# EAGLE library part KEYSWITCH-RGBSMDLED (library Keyboard)
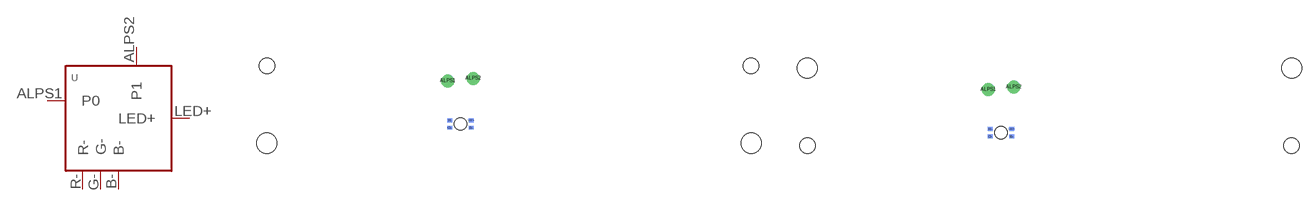
[diagram p1: symbol with the pads of ALPS-REVERSED-6U-SMDRGB; footprints ALPS-REVERSED-6U-SMDRGB, ALPS-REVERSED-6U-SMDRGB-FLIPPED]

Designator prefix -

## KEYSWITCH-RGBSMDLED-ALPS--6U-SMDRGB  [ALPS-REVERSED-6U-SMDRGB]
ALPS1  P0
ALPS2  P1
B-  B-
G-  G-
LED+  LED+
R-  R-

## KEYSWITCH-RGBSMDLED-ALPS--6U-SMDRGB-FLIPPED  [ALPS-REVERSED-6U-SMDRGB-FLIPPED]
Pads as for ALPS-REVERSED-6U-SMDRGB

## KEYSWITCH-RGBSMDLED-ALPS--6U-SMDRGB-FLIPPED-ROTATED  [ALPS-REVERSED-6U-SMDRGB-FLIPPED-ROTATED]
Pads as for ALPS-REVERSED-6U-SMDRGB

## KEYSWITCH-RGBSMDLED-ALPS--6U-SMDRGB-ROTATED  [ALPS-REVERSED-6U-SMDRGB-ROTATED]
Pads as for ALPS-REVERSED-6U-SMDRGB

## KEYSWITCH-RGBSMDLED-ALPS-1U-SMDRGB  [ALPS-1U-SMDRGB]
Pads as for ALPS-REVERSED-6U-SMDRGB

## KEYSWITCH-RGBSMDLED-ALPS-2U-SMDRGB  [ALPS-2U-SMDRGB]
Pads as for ALPS-REVERSED-6U-SMDRGB

## KEYSWITCH-RGBSMDLED-ALPS-2U-SMDRGB-FLIPPED  [ALPS-2U-SMDRGB-FLIPPED]
Pads as for ALPS-REVERSED-6U-SMDRGB

## KEYSWITCH-RGBSMDLED-ALPS-2U-SMDRGB-FLIPPED-ROTATED  [ALPS-2U-SMDRGB-FLIPPED-ROTATED]
Pads as for ALPS-REVERSED-6U-SMDRGB

## KEYSWITCH-RGBSMDLED-ALPS-2U-SMDRGB-ROTATED  [ALPS-2U-SMDRGB-ROTATED]
Pads as for ALPS-REVERSED-6U-SMDRGB

## KEYSWITCH-RGBSMDLED-ALPS-4U-SMDRGB  [ALPS-4U-SMDRGB]
Pads as for ALPS-REVERSED-6U-SMDRGB

## KEYSWITCH-RGBSMDLED-ALPS-4U-SMDRGB-FLIPPED  [ALPS-4U-SMDRGB-FLIPPED]
Pads as for ALPS-REVERSED-6U-SMDRGB

## KEYSWITCH-RGBSMDLED-ALPS-4U-SMDRGB-FLIPPED-ROTATED  [ALPS-4U-SMDRGB-FLIPPED-ROTATED]
Pads as for ALPS-REVERSED-6U-SMDRGB

## KEYSWITCH-RGBSMDLED-ALPS-4U-SMDRGB-ROTATED  [ALPS-4U-SMDRGB-ROTATED]
Pads as for ALPS-REVERSED-6U-SMDRGB

## KEYSWITCH-RGBSMDLED-ALPS-6U-SMDRGB  [ALPS-6U-SMDRGB]
Pads as for ALPS-REVERSED-6U-SMDRGB

## KEYSWITCH-RGBSMDLED-ALPS-6U-SMDRGB-FLIPPED  [ALPS-6U-SMDRGB-FLIPPED]
Pads as for ALPS-REVERSED-6U-SMDRGB

## KEYSWITCH-RGBSMDLED-ALPS-6U-SMDRGB-FLIPPED-ROTATED  [ALPS-6U-SMDRGB-FLIPPED-ROTATED]
Pads as for ALPS-REVERSED-6U-SMDRGB

## KEYSWITCH-RGBSMDLED-ALPS-6U-SMDRGB-ROTATED  [ALPS-6U-SMDRGB-ROTATED]
Pads as for ALPS-REVERSED-6U-SMDRGB

## KEYSWITCH-RGBSMDLED-ALPS-6.25U-SMDRGB  [ALPS-6.25U-SMDRGB]
Pads as for ALPS-REVERSED-6U-SMDRGB

## KEYSWITCH-RGBSMDLED-ALPS-6.25U-SMDRGB-FLIPPED  [ALPS-6.25U-SMDRGB-FLIPPED]
Pads as for ALPS-REVERSED-6U-SMDRGB

## KEYSWITCH-RGBSMDLED-ALPS-6.25U-SMDRGB-FLIPPED-ROTATED  [ALPS-6.25U-SMDRGB-FLIPPED-ROTATED]
Pads as for ALPS-REVERSED-6U-SMDRGB

## KEYSWITCH-RGBSMDLED-ALPS-6.25U-SMDRGB-ROTATED  [ALPS-6.25U-SMDRGB-ROTATED]
Pads as for ALPS-REVERSED-6U-SMDRGB

## KEYSWITCH-RGBSMDLED-ALPS-6.5U-SMDRGB  [ALPS-6.5U-SMDRGB]
Pads as for ALPS-REVERSED-6U-SMDRGB

## KEYSWITCH-RGBSMDLED-ALPS-6.5U-SMDRGB-FLIPPED  [ALPS-6.5U-SMDRGB-FLIPPED]
Pads as for ALPS-REVERSED-6U-SMDRGB

## KEYSWITCH-RGBSMDLED-ALPS-6.5U-SMDRGB-FLIPPED-ROTATED  [ALPS-6.5U-SMDRGB-FLIPPED-ROTATED]
Pads as for ALPS-REVERSED-6U-SMDRGB

## KEYSWITCH-RGBSMDLED-ALPS-6.5U-SMDRGB-ROTATED  [ALPS-6.5U-SMDRGB-ROTATED]
Pads as for ALPS-REVERSED-6U-SMDRGB

## KEYSWITCH-RGBSMDLED-ALPS-7U-SMDRGB  [ALPS-7U-SMDRGB]
Pads as for ALPS-REVERSED-6U-SMDRGB

## KEYSWITCH-RGBSMDLED-ALPS-7U-SMDRGB-FLIPPED  [ALPS-7U-SMDRGB-FLIPPED]
Pads as for ALPS-REVERSED-6U-SMDRGB

## KEYSWITCH-RGBSMDLED-ALPS-7U-SMDRGB-FLIPPED-ROTATED  [ALPS-7U-SMDRGB-FLIPPED-ROTATED]
Pads as for ALPS-REVERSED-6U-SMDRGB

## KEYSWITCH-RGBSMDLED-ALPS-7U-SMDRGB-ROTATED  [ALPS-7U-SMDRGB-ROTATED]
Pads as for ALPS-REVERSED-6U-SMDRGB

## KEYSWITCH-RGBSMDLED-ALPSMX--6U-SMDRGB  [ALPSMX-REVERSED-6U-SMDRGB]
ALPS1  P0
ALPS2  P1
B-  B-
G-  G-
LED+  LED+
MX1  P0
MX2  P1
R-  R-

## KEYSWITCH-RGBSMDLED-ALPSMX--6U-SMDRGB-FLIPPED  [ALPSMX-REVERSED-6U-SMDRGB-FLIPPED]
Pads as for ALPSMX-REVERSED-6U-SMDRGB

## KEYSWITCH-RGBSMDLED-ALPSMX--6U-SMDRGB-FLIPPED-ROTATED  [ALPSMX-REVERSED-6U-SMDRGB-FLIPPED-ROTATED]
Pads as for ALPSMX-REVERSED-6U-SMDRGB

## KEYSWITCH-RGBSMDLED-ALPSMX--6U-SMDRGB-ROTATED  [ALPSMX-REVERSED-6U-SMDRGB-ROTATED]
Pads as for ALPSMX-REVERSED-6U-SMDRGB

## KEYSWITCH-RGBSMDLED-ALPSMX-1U-SMDRGB  [ALPSMX-1U-SMDRGB]
Pads as for ALPSMX-REVERSED-6U-SMDRGB

## KEYSWITCH-RGBSMDLED-ALPSMX-2U-SMDRGB  [ALPSMX-2U-SMDRGB]
Pads as for ALPSMX-REVERSED-6U-SMDRGB

## KEYSWITCH-RGBSMDLED-ALPSMX-2U-SMDRGB-FLIPPED  [ALPSMX-2U-SMDRGB-FLIPPED]
Pads as for ALPSMX-REVERSED-6U-SMDRGB

## KEYSWITCH-RGBSMDLED-ALPSMX-2U-SMDRGB-FLIPPED-ROTATED  [ALPSMX-2U-SMDRGB-FLIPPED-ROTATED]
Pads as for ALPSMX-REVERSED-6U-SMDRGB

## KEYSWITCH-RGBSMDLED-ALPSMX-2U-SMDRGB-ROTATED  [ALPSMX-2U-SMDRGB-ROTATED]
Pads as for ALPSMX-REVERSED-6U-SMDRGB

## KEYSWITCH-RGBSMDLED-ALPSMX-4U-SMDRGB  [ALPSMX-4U-SMDRGB]
Pads as for ALPSMX-REVERSED-6U-SMDRGB

## KEYSWITCH-RGBSMDLED-ALPSMX-4U-SMDRGB-FLIPPED  [ALPSMX-4U-SMDRGB-FLIPPED]
Pads as for ALPSMX-REVERSED-6U-SMDRGB

## KEYSWITCH-RGBSMDLED-ALPSMX-4U-SMDRGB-FLIPPED-ROTATED  [ALPSMX-4U-SMDRGB-FLIPPED-ROTATED]
Pads as for ALPSMX-REVERSED-6U-SMDRGB

## KEYSWITCH-RGBSMDLED-ALPSMX-4U-SMDRGB-ROTATED  [ALPSMX-4U-SMDRGB-ROTATED]
Pads as for ALPSMX-REVERSED-6U-SMDRGB

## KEYSWITCH-RGBSMDLED-ALPSMX-6U-SMDRGB  [ALPSMX-6U-SMDRGB]
Pads as for ALPSMX-REVERSED-6U-SMDRGB

## KEYSWITCH-RGBSMDLED-ALPSMX-6U-SMDRGB-FLIPPED  [ALPSMX-6U-SMDRGB-FLIPPED]
Pads as for ALPSMX-REVERSED-6U-SMDRGB

## KEYSWITCH-RGBSMDLED-ALPSMX-6U-SMDRGB-FLIPPED-ROTATED  [ALPSMX-6U-SMDRGB-FLIPPED-ROTATED]
Pads as for ALPSMX-REVERSED-6U-SMDRGB

## KEYSWITCH-RGBSMDLED-ALPSMX-6U-SMDRGB-ROTATED  [ALPSMX-6U-SMDRGB-ROTATED]
Pads as for ALPSMX-REVERSED-6U-SMDRGB

## KEYSWITCH-RGBSMDLED-ALPSMX-6.25U-SMDRGB  [ALPSMX-6.25U-SMDRGB]
Pads as for ALPSMX-REVERSED-6U-SMDRGB

## KEYSWITCH-RGBSMDLED-ALPSMX-6.25U-SMDRGB-FLIPPED  [ALPSMX-6.25U-SMDRGB-FLIPPED]
Pads as for ALPSMX-REVERSED-6U-SMDRGB

## KEYSWITCH-RGBSMDLED-ALPSMX-6.25U-SMDRGB-FLIPPED-ROTATED  [ALPSMX-6.25U-SMDRGB-FLIPPED-ROTATED]
Pads as for ALPSMX-REVERSED-6U-SMDRGB

## KEYSWITCH-RGBSMDLED-ALPSMX-6.25U-SMDRGB-ROTATED  [ALPSMX-6.25U-SMDRGB-ROTATED]
Pads as for ALPSMX-REVERSED-6U-SMDRGB

## KEYSWITCH-RGBSMDLED-ALPSMX-6.5U-SMDRGB  [ALPSMX-6.5U-SMDRGB]
Pads as for ALPSMX-REVERSED-6U-SMDRGB

## KEYSWITCH-RGBSMDLED-ALPSMX-6.5U-SMDRGB-FLIPPED  [ALPSMX-6.5U-SMDRGB-FLIPPED]
Pads as for ALPSMX-REVERSED-6U-SMDRGB

## KEYSWITCH-RGBSMDLED-ALPSMX-6.5U-SMDRGB-FLIPPED-ROTATED  [ALPSMX-6.5U-SMDRGB-FLIPPED-ROTATED]
Pads as for ALPSMX-REVERSED-6U-SMDRGB

## KEYSWITCH-RGBSMDLED-ALPSMX-6.5U-SMDRGB-ROTATED  [ALPSMX-6.5U-SMDRGB-ROTATED]
Pads as for ALPSMX-REVERSED-6U-SMDRGB

## KEYSWITCH-RGBSMDLED-ALPSMX-7U-SMDRGB  [ALPSMX-7U-SMDRGB]
Pads as for ALPSMX-REVERSED-6U-SMDRGB

## KEYSWITCH-RGBSMDLED-ALPSMX-7U-SMDRGB-FLIPPED  [ALPSMX-7U-SMDRGB-FLIPPED]
Pads as for ALPSMX-REVERSED-6U-SMDRGB

## KEYSWITCH-RGBSMDLED-ALPSMX-7U-SMDRGB-FLIPPED-ROTATED  [ALPSMX-7U-SMDRGB-FLIPPED-ROTATED]
Pads as for ALPSMX-REVERSED-6U-SMDRGB

## KEYSWITCH-RGBSMDLED-ALPSMX-7U-SMDRGB-ROTATED  [ALPSMX-7U-SMDRGB-ROTATED]
Pads as for ALPSMX-REVERSED-6U-SMDRGB

## KEYSWITCH-RGBSMDLED-ALPSMXMIR--6U-SMDRGB  [ALPSMXMIR-REVERSED-6U-SMDRGB]
ALPS1  P0
ALPS2  P1
ALPS3  P0
ALPS4  P1
B-  B-
G-  G-
LED+  LED+
MX1  P0
MX2  P1
MX3  P0
MX4  P1
R-  R-

## KEYSWITCH-RGBSMDLED-ALPSMXMIR--6U-SMDRGB-FLIPPED  [ALPSMXMIR-REVERSED-6U-SMDRGB-FLIPPED]
Pads as for ALPSMXMIR-REVERSED-6U-SMDRGB

## KEYSWITCH-RGBSMDLED-ALPSMXMIR--6U-SMDRGB-FLIPPED-ROTATED  [ALPSMXMIR-REVERSED-6U-SMDRGB-FLIPPED-ROTATED]
Pads as for ALPSMXMIR-REVERSED-6U-SMDRGB

## KEYSWITCH-RGBSMDLED-ALPSMXMIR--6U-SMDRGB-ROTATED  [ALPSMXMIR-REVERSED-6U-SMDRGB-ROTATED]
Pads as for ALPSMXMIR-REVERSED-6U-SMDRGB

## KEYSWITCH-RGBSMDLED-ALPSMXMIR-1U-SMDRGB  [ALPSMXMIR-1U-SMDRGB]
Pads as for ALPSMXMIR-REVERSED-6U-SMDRGB

## KEYSWITCH-RGBSMDLED-ALPSMXMIR-2U-SMDRGB  [ALPSMXMIR-2U-SMDRGB]
Pads as for ALPSMXMIR-REVERSED-6U-SMDRGB

## KEYSWITCH-RGBSMDLED-ALPSMXMIR-2U-SMDRGB-FLIPPED  [ALPSMXMIR-2U-SMDRGB-FLIPPED]
Pads as for ALPSMXMIR-REVERSED-6U-SMDRGB

## KEYSWITCH-RGBSMDLED-ALPSMXMIR-2U-SMDRGB-FLIPPED-ROTATED  [ALPSMXMIR-2U-SMDRGB-FLIPPED-ROTATED]
Pads as for ALPSMXMIR-REVERSED-6U-SMDRGB

## KEYSWITCH-RGBSMDLED-ALPSMXMIR-2U-SMDRGB-ROTATED  [ALPSMXMIR-2U-SMDRGB-ROTATED]
Pads as for ALPSMXMIR-REVERSED-6U-SMDRGB

## KEYSWITCH-RGBSMDLED-ALPSMXMIR-4U-SMDRGB  [ALPSMXMIR-4U-SMDRGB]
Pads as for ALPSMXMIR-REVERSED-6U-SMDRGB

## KEYSWITCH-RGBSMDLED-ALPSMXMIR-4U-SMDRGB-FLIPPED  [ALPSMXMIR-4U-SMDRGB-FLIPPED]
Pads as for ALPSMXMIR-REVERSED-6U-SMDRGB

## KEYSWITCH-RGBSMDLED-ALPSMXMIR-4U-SMDRGB-FLIPPED-ROTATED  [ALPSMXMIR-4U-SMDRGB-FLIPPED-ROTATED]
Pads as for ALPSMXMIR-REVERSED-6U-SMDRGB

## KEYSWITCH-RGBSMDLED-ALPSMXMIR-4U-SMDRGB-ROTATED  [ALPSMXMIR-4U-SMDRGB-ROTATED]
Pads as for ALPSMXMIR-REVERSED-6U-SMDRGB

## KEYSWITCH-RGBSMDLED-ALPSMXMIR-6U-SMDRGB  [ALPSMXMIR-6U-SMDRGB]
Pads as for ALPSMXMIR-REVERSED-6U-SMDRGB

## KEYSWITCH-RGBSMDLED-ALPSMXMIR-6U-SMDRGB-FLIPPED  [ALPSMXMIR-6U-SMDRGB-FLIPPED]
Pads as for ALPSMXMIR-REVERSED-6U-SMDRGB

## KEYSWITCH-RGBSMDLED-ALPSMXMIR-6U-SMDRGB-FLIPPED-ROTATED  [ALPSMXMIR-6U-SMDRGB-FLIPPED-ROTATED]
Pads as for ALPSMXMIR-REVERSED-6U-SMDRGB

## KEYSWITCH-RGBSMDLED-ALPSMXMIR-6U-SMDRGB-ROTATED  [ALPSMXMIR-6U-SMDRGB-ROTATED]
Pads as for ALPSMXMIR-REVERSED-6U-SMDRGB

## KEYSWITCH-RGBSMDLED-ALPSMXMIR-6.25U-SMDRGB  [ALPSMXMIR-6.25U-SMDRGB]
Pads as for ALPSMXMIR-REVERSED-6U-SMDRGB

## KEYSWITCH-RGBSMDLED-ALPSMXMIR-6.25U-SMDRGB-FLIPPED  [ALPSMXMIR-6.25U-SMDRGB-FLIPPED]
Pads as for ALPSMXMIR-REVERSED-6U-SMDRGB

## KEYSWITCH-RGBSMDLED-ALPSMXMIR-6.25U-SMDRGB-FLIPPED-ROTATED  [ALPSMXMIR-6.25U-SMDRGB-FLIPPED-ROTATED]
Pads as for ALPSMXMIR-REVERSED-6U-SMDRGB

## KEYSWITCH-RGBSMDLED-ALPSMXMIR-6.25U-SMDRGB-ROTATED  [ALPSMXMIR-6.25U-SMDRGB-ROTATED]
Pads as for ALPSMXMIR-REVERSED-6U-SMDRGB

## KEYSWITCH-RGBSMDLED-ALPSMXMIR-6.5U-SMDRGB  [ALPSMXMIR-6.5U-SMDRGB]
Pads as for ALPSMXMIR-REVERSED-6U-SMDRGB

## KEYSWITCH-RGBSMDLED-ALPSMXMIR-6.5U-SMDRGB-FLIPPED  [ALPSMXMIR-6.5U-SMDRGB-FLIPPED]
Pads as for ALPSMXMIR-REVERSED-6U-SMDRGB

## KEYSWITCH-RGBSMDLED-ALPSMXMIR-6.5U-SMDRGB-FLIPPED-ROTATED  [ALPSMXMIR-6.5U-SMDRGB-FLIPPED-ROTATED]
Pads as for ALPSMXMIR-REVERSED-6U-SMDRGB

## KEYSWITCH-RGBSMDLED-ALPSMXMIR-6.5U-SMDRGB-ROTATED  [ALPSMXMIR-6.5U-SMDRGB-ROTATED]
Pads as for ALPSMXMIR-REVERSED-6U-SMDRGB

## KEYSWITCH-RGBSMDLED-ALPSMXMIR-7U-SMDRGB  [ALPSMXMIR-7U-SMDRGB]
Pads as for ALPSMXMIR-REVERSED-6U-SMDRGB

## KEYSWITCH-RGBSMDLED-ALPSMXMIR-7U-SMDRGB-FLIPPED  [ALPSMXMIR-7U-SMDRGB-FLIPPED]
Pads as for ALPSMXMIR-REVERSED-6U-SMDRGB

## KEYSWITCH-RGBSMDLED-ALPSMXMIR-7U-SMDRGB-FLIPPED-ROTATED  [ALPSMXMIR-7U-SMDRGB-FLIPPED-ROTATED]
Pads as for ALPSMXMIR-REVERSED-6U-SMDRGB

## KEYSWITCH-RGBSMDLED-ALPSMXMIR-7U-SMDRGB-ROTATED  [ALPSMXMIR-7U-SMDRGB-ROTATED]
Pads as for ALPSMXMIR-REVERSED-6U-SMDRGB

## KEYSWITCH-RGBSMDLED-MX--6U-SMDRGB  [MX-REVERSED-6U-SMDRGB]
B-  B-
G-  G-
LED+  LED+
MX1  P0
MX2  P1
R-  R-

## KEYSWITCH-RGBSMDLED-MX--6U-SMDRGB-FLIPPED  [MX-REVERSED-6U-SMDRGB-FLIPPED]
Pads as for MX-REVERSED-6U-SMDRGB

## KEYSWITCH-RGBSMDLED-MX--6U-SMDRGB-FLIPPED-ROTATED  [MX-REVERSED-6U-SMDRGB-FLIPPED-ROTATED]
Pads as for MX-REVERSED-6U-SMDRGB

## KEYSWITCH-RGBSMDLED-MX--6U-SMDRGB-ROTATED  [MX-REVERSED-6U-SMDRGB-ROTATED]
Pads as for MX-REVERSED-6U-SMDRGB

## KEYSWITCH-RGBSMDLED-MX-1U-SMDRGB  [MX-1U-SMDRGB]
Pads as for MX-REVERSED-6U-SMDRGB

## KEYSWITCH-RGBSMDLED-MX-2U-SMDRGB  [MX-2U-SMDRGB]
Pads as for MX-REVERSED-6U-SMDRGB

## KEYSWITCH-RGBSMDLED-MX-2U-SMDRGB-FLIPPED  [MX-2U-SMDRGB-FLIPPED]
Pads as for MX-REVERSED-6U-SMDRGB

## KEYSWITCH-RGBSMDLED-MX-2U-SMDRGB-FLIPPED-ROTATED  [MX-2U-SMDRGB-FLIPPED-ROTATED]
Pads as for MX-REVERSED-6U-SMDRGB

## KEYSWITCH-RGBSMDLED-MX-2U-SMDRGB-ROTATED  [MX-2U-SMDRGB-ROTATED]
Pads as for MX-REVERSED-6U-SMDRGB

## KEYSWITCH-RGBSMDLED-MX-4U-SMDRGB  [MX-4U-SMDRGB]
Pads as for MX-REVERSED-6U-SMDRGB

## KEYSWITCH-RGBSMDLED-MX-4U-SMDRGB-FLIPPED  [MX-4U-SMDRGB-FLIPPED]
Pads as for MX-REVERSED-6U-SMDRGB

## KEYSWITCH-RGBSMDLED-MX-4U-SMDRGB-FLIPPED-ROTATED  [MX-4U-SMDRGB-FLIPPED-ROTATED]
Pads as for MX-REVERSED-6U-SMDRGB

## KEYSWITCH-RGBSMDLED-MX-4U-SMDRGB-ROTATED  [MX-4U-SMDRGB-ROTATED]
Pads as for MX-REVERSED-6U-SMDRGB

## KEYSWITCH-RGBSMDLED-MX-6U-SMDRGB  [MX-6U-SMDRGB]
Pads as for MX-REVERSED-6U-SMDRGB

## KEYSWITCH-RGBSMDLED-MX-6U-SMDRGB-FLIPPED  [MX-6U-SMDRGB-FLIPPED]
Pads as for MX-REVERSED-6U-SMDRGB

## KEYSWITCH-RGBSMDLED-MX-6U-SMDRGB-FLIPPED-ROTATED  [MX-6U-SMDRGB-FLIPPED-ROTATED]
Pads as for MX-REVERSED-6U-SMDRGB

## KEYSWITCH-RGBSMDLED-MX-6U-SMDRGB-ROTATED  [MX-6U-SMDRGB-ROTATED]
Pads as for MX-REVERSED-6U-SMDRGB

## KEYSWITCH-RGBSMDLED-MX-6.25U-SMDRGB  [MX-6.25U-SMDRGB]
Pads as for MX-REVERSED-6U-SMDRGB

## KEYSWITCH-RGBSMDLED-MX-6.25U-SMDRGB-FLIPPED  [MX-6.25U-SMDRGB-FLIPPED]
Pads as for MX-REVERSED-6U-SMDRGB

## KEYSWITCH-RGBSMDLED-MX-6.25U-SMDRGB-FLIPPED-ROTATED  [MX-6.25U-SMDRGB-FLIPPED-ROTATED]
Pads as for MX-REVERSED-6U-SMDRGB

## KEYSWITCH-RGBSMDLED-MX-6.25U-SMDRGB-ROTATED  [MX-6.25U-SMDRGB-ROTATED]
Pads as for MX-REVERSED-6U-SMDRGB

## KEYSWITCH-RGBSMDLED-MX-6.5U-SMDRGB  [MX-6.5U-SMDRGB]
Pads as for MX-REVERSED-6U-SMDRGB

## KEYSWITCH-RGBSMDLED-MX-6.5U-SMDRGB-FLIPPED  [MX-6.5U-SMDRGB-FLIPPED]
Pads as for MX-REVERSED-6U-SMDRGB

## KEYSWITCH-RGBSMDLED-MX-6.5U-SMDRGB-FLIPPED-ROTATED  [MX-6.5U-SMDRGB-FLIPPED-ROTATED]
Pads as for MX-REVERSED-6U-SMDRGB

## KEYSWITCH-RGBSMDLED-MX-6.5U-SMDRGB-ROTATED  [MX-6.5U-SMDRGB-ROTATED]
Pads as for MX-REVERSED-6U-SMDRGB

## KEYSWITCH-RGBSMDLED-MX-7U-SMDRGB  [MX-7U-SMDRGB]
Pads as for MX-REVERSED-6U-SMDRGB

## KEYSWITCH-RGBSMDLED-MX-7U-SMDRGB-FLIPPED  [MX-7U-SMDRGB-FLIPPED]
Pads as for MX-REVERSED-6U-SMDRGB

## KEYSWITCH-RGBSMDLED-MX-7U-SMDRGB-FLIPPED-ROTATED  [MX-7U-SMDRGB-FLIPPED-ROTATED]
Pads as for MX-REVERSED-6U-SMDRGB

## KEYSWITCH-RGBSMDLED-MX-7U-SMDRGB-ROTATED  [MX-7U-SMDRGB-ROTATED]
Pads as for MX-REVERSED-6U-SMDRGB

## KEYSWITCH-RGBSMDLED-MXHS--6U-SMDRGB  [MXHS-REVERSED-6U-SMDRGB]
Pads as for MX-REVERSED-6U-SMDRGB

## KEYSWITCH-RGBSMDLED-MXHS--6U-SMDRGB-FLIPPED  [MXHS-REVERSED-6U-SMDRGB-FLIPPED]
Pads as for MX-REVERSED-6U-SMDRGB

## KEYSWITCH-RGBSMDLED-MXHS--6U-SMDRGB-FLIPPED-ROTATED  [MXHS-REVERSED-6U-SMDRGB-FLIPPED-ROTATED]
Pads as for MX-REVERSED-6U-SMDRGB

## KEYSWITCH-RGBSMDLED-MXHS--6U-SMDRGB-ROTATED  [MXHS-REVERSED-6U-SMDRGB-ROTATED]
Pads as for MX-REVERSED-6U-SMDRGB

## KEYSWITCH-RGBSMDLED-MXHS-1U-SMDRGB  [MXHS-1U-SMDRGB]
Pads as for MX-REVERSED-6U-SMDRGB

## KEYSWITCH-RGBSMDLED-MXHS-2U-SMDRGB  [MXHS-2U-SMDRGB]
Pads as for MX-REVERSED-6U-SMDRGB

## KEYSWITCH-RGBSMDLED-MXHS-2U-SMDRGB-FLIPPED  [MXHS-2U-SMDRGB-FLIPPED]
Pads as for MX-REVERSED-6U-SMDRGB

## KEYSWITCH-RGBSMDLED-MXHS-2U-SMDRGB-FLIPPED-ROTATED  [MXHS-2U-SMDRGB-FLIPPED-ROTATED]
Pads as for MX-REVERSED-6U-SMDRGB

## KEYSWITCH-RGBSMDLED-MXHS-2U-SMDRGB-ROTATED  [MXHS-2U-SMDRGB-ROTATED]
Pads as for MX-REVERSED-6U-SMDRGB

## KEYSWITCH-RGBSMDLED-MXHS-4U-SMDRGB  [MXHS-4U-SMDRGB]
Pads as for MX-REVERSED-6U-SMDRGB

## KEYSWITCH-RGBSMDLED-MXHS-4U-SMDRGB-FLIPPED  [MXHS-4U-SMDRGB-FLIPPED]
Pads as for MX-REVERSED-6U-SMDRGB

## KEYSWITCH-RGBSMDLED-MXHS-4U-SMDRGB-FLIPPED-ROTATED  [MXHS-4U-SMDRGB-FLIPPED-ROTATED]
Pads as for MX-REVERSED-6U-SMDRGB

## KEYSWITCH-RGBSMDLED-MXHS-4U-SMDRGB-ROTATED  [MXHS-4U-SMDRGB-ROTATED]
Pads as for MX-REVERSED-6U-SMDRGB

## KEYSWITCH-RGBSMDLED-MXHS-6U-SMDRGB  [MXHS-6U-SMDRGB]
Pads as for MX-REVERSED-6U-SMDRGB

## KEYSWITCH-RGBSMDLED-MXHS-6U-SMDRGB-FLIPPED  [MXHS-6U-SMDRGB-FLIPPED]
Pads as for MX-REVERSED-6U-SMDRGB

## KEYSWITCH-RGBSMDLED-MXHS-6U-SMDRGB-FLIPPED-ROTATED  [MXHS-6U-SMDRGB-FLIPPED-ROTATED]
Pads as for MX-REVERSED-6U-SMDRGB

## KEYSWITCH-RGBSMDLED-MXHS-6U-SMDRGB-ROTATED  [MXHS-6U-SMDRGB-ROTATED]
Pads as for MX-REVERSED-6U-SMDRGB

## KEYSWITCH-RGBSMDLED-MXHS-6.25U-SMDRGB  [MXHS-6.25U-SMDRGB]
Pads as for MX-REVERSED-6U-SMDRGB

## KEYSWITCH-RGBSMDLED-MXHS-6.25U-SMDRGB-FLIPPED  [MXHS-6.25U-SMDRGB-FLIPPED]
Pads as for MX-REVERSED-6U-SMDRGB

## KEYSWITCH-RGBSMDLED-MXHS-6.25U-SMDRGB-FLIPPED-ROTATED  [MXHS-6.25U-SMDRGB-FLIPPED-ROTATED]
Pads as for MX-REVERSED-6U-SMDRGB

## KEYSWITCH-RGBSMDLED-MXHS-6.25U-SMDRGB-ROTATED  [MXHS-6.25U-SMDRGB-ROTATED]
Pads as for MX-REVERSED-6U-SMDRGB

## KEYSWITCH-RGBSMDLED-MXHS-6.5U-SMDRGB  [MXHS-6.5U-SMDRGB]
Pads as for MX-REVERSED-6U-SMDRGB

## KEYSWITCH-RGBSMDLED-MXHS-6.5U-SMDRGB-FLIPPED  [MXHS-6.5U-SMDRGB-FLIPPED]
Pads as for MX-REVERSED-6U-SMDRGB

## KEYSWITCH-RGBSMDLED-MXHS-6.5U-SMDRGB-FLIPPED-ROTATED  [MXHS-6.5U-SMDRGB-FLIPPED-ROTATED]
Pads as for MX-REVERSED-6U-SMDRGB

## KEYSWITCH-RGBSMDLED-MXHS-6.5U-SMDRGB-ROTATED  [MXHS-6.5U-SMDRGB-ROTATED]
Pads as for MX-REVERSED-6U-SMDRGB

## KEYSWITCH-RGBSMDLED-MXHS-7U-SMDRGB  [MXHS-7U-SMDRGB]
Pads as for MX-REVERSED-6U-SMDRGB

## KEYSWITCH-RGBSMDLED-MXHS-7U-SMDRGB-FLIPPED  [MXHS-7U-SMDRGB-FLIPPED]
Pads as for MX-REVERSED-6U-SMDRGB

## KEYSWITCH-RGBSMDLED-MXHS-7U-SMDRGB-FLIPPED-ROTATED  [MXHS-7U-SMDRGB-FLIPPED-ROTATED]
Pads as for MX-REVERSED-6U-SMDRGB

## KEYSWITCH-RGBSMDLED-MXHS-7U-SMDRGB-ROTATED  [MXHS-7U-SMDRGB-ROTATED]
Pads as for MX-REVERSED-6U-SMDRGB

## KEYSWITCH-RGBSMDLED-MXHSPCB--6U-SMDRGB  [MXHSPCB-REVERSED-6U-SMDRGB]
Pads as for MX-REVERSED-6U-SMDRGB

## KEYSWITCH-RGBSMDLED-MXHSPCB--6U-SMDRGB-FLIPPED  [MXHSPCB-REVERSED-6U-SMDRGB-FLIPPED]
Pads as for MX-REVERSED-6U-SMDRGB

## KEYSWITCH-RGBSMDLED-MXHSPCB--6U-SMDRGB-FLIPPED-ROTATED  [MXHSPCB-REVERSED-6U-SMDRGB-FLIPPED-ROTATED]
Pads as for MX-REVERSED-6U-SMDRGB

## KEYSWITCH-RGBSMDLED-MXHSPCB--6U-SMDRGB-ROTATED  [MXHSPCB-REVERSED-6U-SMDRGB-ROTATED]
Pads as for MX-REVERSED-6U-SMDRGB

## KEYSWITCH-RGBSMDLED-MXHSPCB-1U-SMDRGB  [MXHSPCB-1U-SMDRGB]
Pads as for MX-REVERSED-6U-SMDRGB

## KEYSWITCH-RGBSMDLED-MXHSPCB-2U-SMDRGB  [MXHSPCB-2U-SMDRGB]
Pads as for MX-REVERSED-6U-SMDRGB

## KEYSWITCH-RGBSMDLED-MXHSPCB-2U-SMDRGB-FLIPPED  [MXHSPCB-2U-SMDRGB-FLIPPED]
Pads as for MX-REVERSED-6U-SMDRGB

## KEYSWITCH-RGBSMDLED-MXHSPCB-2U-SMDRGB-FLIPPED-ROTATED  [MXHSPCB-2U-SMDRGB-FLIPPED-ROTATED]
Pads as for MX-REVERSED-6U-SMDRGB

## KEYSWITCH-RGBSMDLED-MXHSPCB-2U-SMDRGB-ROTATED  [MXHSPCB-2U-SMDRGB-ROTATED]
Pads as for MX-REVERSED-6U-SMDRGB

## KEYSWITCH-RGBSMDLED-MXHSPCB-4U-SMDRGB  [MXHSPCB-4U-SMDRGB]
Pads as for MX-REVERSED-6U-SMDRGB

## KEYSWITCH-RGBSMDLED-MXHSPCB-4U-SMDRGB-FLIPPED  [MXHSPCB-4U-SMDRGB-FLIPPED]
Pads as for MX-REVERSED-6U-SMDRGB

## KEYSWITCH-RGBSMDLED-MXHSPCB-4U-SMDRGB-FLIPPED-ROTATED  [MXHSPCB-4U-SMDRGB-FLIPPED-ROTATED]
Pads as for MX-REVERSED-6U-SMDRGB

## KEYSWITCH-RGBSMDLED-MXHSPCB-4U-SMDRGB-ROTATED  [MXHSPCB-4U-SMDRGB-ROTATED]
Pads as for MX-REVERSED-6U-SMDRGB

## KEYSWITCH-RGBSMDLED-MXHSPCB-6U-SMDRGB  [MXHSPCB-6U-SMDRGB]
Pads as for MX-REVERSED-6U-SMDRGB

## KEYSWITCH-RGBSMDLED-MXHSPCB-6U-SMDRGB-FLIPPED  [MXHSPCB-6U-SMDRGB-FLIPPED]
Pads as for MX-REVERSED-6U-SMDRGB

## KEYSWITCH-RGBSMDLED-MXHSPCB-6U-SMDRGB-FLIPPED-ROTATED  [MXHSPCB-6U-SMDRGB-FLIPPED-ROTATED]
Pads as for MX-REVERSED-6U-SMDRGB

## KEYSWITCH-RGBSMDLED-MXHSPCB-6U-SMDRGB-ROTATED  [MXHSPCB-6U-SMDRGB-ROTATED]
Pads as for MX-REVERSED-6U-SMDRGB

## KEYSWITCH-RGBSMDLED-MXHSPCB-6.25U-SMDRGB  [MXHSPCB-6.25U-SMDRGB]
Pads as for MX-REVERSED-6U-SMDRGB

## KEYSWITCH-RGBSMDLED-MXHSPCB-6.25U-SMDRGB-FLIPPED  [MXHSPCB-6.25U-SMDRGB-FLIPPED]
Pads as for MX-REVERSED-6U-SMDRGB

## KEYSWITCH-RGBSMDLED-MXHSPCB-6.25U-SMDRGB-FLIPPED-ROTATED  [MXHSPCB-6.25U-SMDRGB-FLIPPED-ROTATED]
Pads as for MX-REVERSED-6U-SMDRGB

## KEYSWITCH-RGBSMDLED-MXHSPCB-6.25U-SMDRGB-ROTATED  [MXHSPCB-6.25U-SMDRGB-ROTATED]
Pads as for MX-REVERSED-6U-SMDRGB

## KEYSWITCH-RGBSMDLED-MXHSPCB-6.5U-SMDRGB  [MXHSPCB-6.5U-SMDRGB]
Pads as for MX-REVERSED-6U-SMDRGB

## KEYSWITCH-RGBSMDLED-MXHSPCB-6.5U-SMDRGB-FLIPPED  [MXHSPCB-6.5U-SMDRGB-FLIPPED]
Pads as for MX-REVERSED-6U-SMDRGB

## KEYSWITCH-RGBSMDLED-MXHSPCB-6.5U-SMDRGB-FLIPPED-ROTATED  [MXHSPCB-6.5U-SMDRGB-FLIPPED-ROTATED]
Pads as for MX-REVERSED-6U-SMDRGB

## KEYSWITCH-RGBSMDLED-MXHSPCB-6.5U-SMDRGB-ROTATED  [MXHSPCB-6.5U-SMDRGB-ROTATED]
Pads as for MX-REVERSED-6U-SMDRGB

## KEYSWITCH-RGBSMDLED-MXHSPCB-7U-SMDRGB  [MXHSPCB-7U-SMDRGB]
Pads as for MX-REVERSED-6U-SMDRGB

## KEYSWITCH-RGBSMDLED-MXHSPCB-7U-SMDRGB-FLIPPED  [MXHSPCB-7U-SMDRGB-FLIPPED]
Pads as for MX-REVERSED-6U-SMDRGB

## KEYSWITCH-RGBSMDLED-MXHSPCB-7U-SMDRGB-FLIPPED-ROTATED  [MXHSPCB-7U-SMDRGB-FLIPPED-ROTATED]
Pads as for MX-REVERSED-6U-SMDRGB

## KEYSWITCH-RGBSMDLED-MXHSPCB-7U-SMDRGB-ROTATED  [MXHSPCB-7U-SMDRGB-ROTATED]
Pads as for MX-REVERSED-6U-SMDRGB

## Footprint ALPS-REVERSED-6U-SMDRGB (pad centres in mm)
Keyboard switch package!
drill 1.3 pad 2.54: ALPS1 -2.5,4; ALPS2 2.5,4.5
smd 1 x 0.75 bottom: B- 2.1,-5.225; G- -2.1,-5.225; LED+ 2.1,-3.775; R- -2.1,-3.775
hole 2.4 at 0,-4.5
hole 3.05 at -38.1,7
hole 3.05 at 57.15,7
hole 4 at -38.1,-8.24
hole 4 at 57.15,-8.24

## Footprint ALPS-REVERSED-6U-SMDRGB-FLIPPED (pad centres in mm)
Keyboard switch package!
drill 1.3 pad 2.54: ALPS1 -2.5,4; ALPS2 2.5,4.5
smd 1 x 0.75 bottom: B- 2.1,-5.225; G- -2.1,-5.225; LED+ 2.1,-3.775; R- -2.1,-3.775
hole 2.4 at 0,-4.5
hole 3.05 at -38.1,-7
hole 3.05 at 57.15,-7
hole 4 at -38.1,8.24
hole 4 at 57.15,8.24

## Footprint ALPS-REVERSED-6U-SMDRGB-FLIPPED-ROTATED (pad centres in mm)
Keyboard switch package!
drill 1.3 pad 2.54: ALPS1 -2.5,4; ALPS2 2.5,4.5
smd 1 x 0.75 bottom: B- 2.1,-5.225; G- -2.1,-5.225; LED+ 2.1,-3.775; R- -2.1,-3.775
hole 2.4 at 0,-4.5
hole 3.05 at -7,-38.1
hole 3.05 at -7,57.15
hole 4 at 8.24,-38.1
hole 4 at 8.24,57.15

## Footprint ALPS-REVERSED-6U-SMDRGB-ROTATED (pad centres in mm)
Keyboard switch package!
drill 1.3 pad 2.54: ALPS1 -2.5,4; ALPS2 2.5,4.5
smd 1 x 0.75 bottom: B- 2.1,-5.225; G- -2.1,-5.225; LED+ 2.1,-3.775; R- -2.1,-3.775
hole 2.4 at 0,-4.5
hole 3.05 at 7,-38.1
hole 3.05 at 7,57.15
hole 4 at -8.24,-38.1
hole 4 at -8.24,57.15

## Footprint ALPS-1U-SMDRGB (pad centres in mm)
Keyboard switch package!
drill 1.3 pad 2.54: ALPS1 -2.5,4; ALPS2 2.5,4.5
smd 1 x 0.75 bottom: B- 2.1,-5.225; G- -2.1,-5.225; LED+ 2.1,-3.775; R- -2.1,-3.775
hole 2.4 at 0,-4.5

## Footprint ALPS-2U-SMDRGB (pad centres in mm)
Keyboard switch package!
drill 1.3 pad 2.54: ALPS1 -2.5,4; ALPS2 2.5,4.5
smd 1 x 0.75 bottom: B- 2.1,-5.225; G- -2.1,-5.225; LED+ 2.1,-3.775; R- -2.1,-3.775
hole 2.4 at 0,-4.5
hole 3.05 at -11.9,7
hole 3.05 at 11.9,7
hole 4 at -11.9,-8.24
hole 4 at 11.9,-8.24

## Footprint ALPS-2U-SMDRGB-FLIPPED (pad centres in mm)
Keyboard switch package!
drill 1.3 pad 2.54: ALPS1 -2.5,4; ALPS2 2.5,4.5
smd 1 x 0.75 bottom: B- 2.1,-5.225; G- -2.1,-5.225; LED+ 2.1,-3.775; R- -2.1,-3.775
hole 2.4 at 0,-4.5
hole 3.05 at -11.9,-7
hole 3.05 at 11.9,-7
hole 4 at -11.9,8.24
hole 4 at 11.9,8.24

## Footprint ALPS-2U-SMDRGB-FLIPPED-ROTATED (pad centres in mm)
Keyboard switch package!
drill 1.3 pad 2.54: ALPS1 -2.5,4; ALPS2 2.5,4.5
smd 1 x 0.75 bottom: B- 2.1,-5.225; G- -2.1,-5.225; LED+ 2.1,-3.775; R- -2.1,-3.775
hole 2.4 at 0,-4.5
hole 3.05 at -7,-11.9
hole 3.05 at -7,11.9
hole 4 at 8.24,-11.9
hole 4 at 8.24,11.9

## Footprint ALPS-2U-SMDRGB-ROTATED (pad centres in mm)
Keyboard switch package!
drill 1.3 pad 2.54: ALPS1 -2.5,4; ALPS2 2.5,4.5
smd 1 x 0.75 bottom: B- 2.1,-5.225; G- -2.1,-5.225; LED+ 2.1,-3.775; R- -2.1,-3.775
hole 2.4 at 0,-4.5
hole 3.05 at 7,-11.9
hole 3.05 at 7,11.9
hole 4 at -8.24,-11.9
hole 4 at -8.24,11.9

## Footprint ALPS-4U-SMDRGB (pad centres in mm)
Keyboard switch package!
drill 1.3 pad 2.54: ALPS1 -2.5,4; ALPS2 2.5,4.5
smd 1 x 0.75 bottom: B- 2.1,-5.225; G- -2.1,-5.225; LED+ 2.1,-3.775; R- -2.1,-3.775
hole 2.4 at 0,-4.5
hole 3.05 at -28.625,7
hole 3.05 at 28.625,7
hole 4 at -28.625,-8.24
hole 4 at 28.625,-8.24

## Footprint ALPS-4U-SMDRGB-FLIPPED (pad centres in mm)
Keyboard switch package!
drill 1.3 pad 2.54: ALPS1 -2.5,4; ALPS2 2.5,4.5
smd 1 x 0.75 bottom: B- 2.1,-5.225; G- -2.1,-5.225; LED+ 2.1,-3.775; R- -2.1,-3.775
hole 2.4 at 0,-4.5
hole 3.05 at -28.625,-7
hole 3.05 at 28.625,-7
hole 4 at -28.625,8.24
hole 4 at 28.625,8.24

## Footprint ALPS-4U-SMDRGB-FLIPPED-ROTATED (pad centres in mm)
Keyboard switch package!
drill 1.3 pad 2.54: ALPS1 -2.5,4; ALPS2 2.5,4.5
smd 1 x 0.75 bottom: B- 2.1,-5.225; G- -2.1,-5.225; LED+ 2.1,-3.775; R- -2.1,-3.775
hole 2.4 at 0,-4.5
hole 3.05 at -7,-28.625
hole 3.05 at -7,28.625
hole 4 at 8.24,-28.625
hole 4 at 8.24,28.625

## Footprint ALPS-4U-SMDRGB-ROTATED (pad centres in mm)
Keyboard switch package!
drill 1.3 pad 2.54: ALPS1 -2.5,4; ALPS2 2.5,4.5
smd 1 x 0.75 bottom: B- 2.1,-5.225; G- -2.1,-5.225; LED+ 2.1,-3.775; R- -2.1,-3.775
hole 2.4 at 0,-4.5
hole 3.05 at 7,-28.625
hole 3.05 at 7,28.625
hole 4 at -8.24,-28.625
hole 4 at -8.24,28.625

## Footprint ALPS-6U-SMDRGB (pad centres in mm)
Keyboard switch package!
drill 1.3 pad 2.54: ALPS1 -2.5,4; ALPS2 2.5,4.5
smd 1 x 0.75 bottom: B- 2.1,-5.225; G- -2.1,-5.225; LED+ 2.1,-3.775; R- -2.1,-3.775
hole 2.4 at 0,-4.5
hole 3.05 at -57.15,7
hole 3.05 at 38.1,7
hole 4 at -57.15,-8.24
hole 4 at 38.1,-8.24

## Footprint ALPS-6U-SMDRGB-FLIPPED (pad centres in mm)
Keyboard switch package!
drill 1.3 pad 2.54: ALPS1 -2.5,4; ALPS2 2.5,4.5
smd 1 x 0.75 bottom: B- 2.1,-5.225; G- -2.1,-5.225; LED+ 2.1,-3.775; R- -2.1,-3.775
hole 2.4 at 0,-4.5
hole 3.05 at -57.15,-7
hole 3.05 at 38.1,-7
hole 4 at -57.15,8.24
hole 4 at 38.1,8.24

## Footprint ALPS-6U-SMDRGB-FLIPPED-ROTATED (pad centres in mm)
Keyboard switch package!
drill 1.3 pad 2.54: ALPS1 -2.5,4; ALPS2 2.5,4.5
smd 1 x 0.75 bottom: B- 2.1,-5.225; G- -2.1,-5.225; LED+ 2.1,-3.775; R- -2.1,-3.775
hole 2.4 at 0,-4.5
hole 3.05 at -7,-57.15
hole 3.05 at -7,38.1
hole 4 at 8.24,-57.15
hole 4 at 8.24,38.1

## Footprint ALPS-6U-SMDRGB-ROTATED (pad centres in mm)
Keyboard switch package!
drill 1.3 pad 2.54: ALPS1 -2.5,4; ALPS2 2.5,4.5
smd 1 x 0.75 bottom: B- 2.1,-5.225; G- -2.1,-5.225; LED+ 2.1,-3.775; R- -2.1,-3.775
hole 2.4 at 0,-4.5
hole 3.05 at 7,-57.15
hole 3.05 at 7,38.1
hole 4 at -8.24,-57.15
hole 4 at -8.24,38.1

## Footprint ALPS-6.25U-SMDRGB (pad centres in mm)
Keyboard switch package!
drill 1.3 pad 2.54: ALPS1 -2.5,4; ALPS2 2.5,4.5
smd 1 x 0.75 bottom: B- 2.1,-5.225; G- -2.1,-5.225; LED+ 2.1,-3.775; R- -2.1,-3.775
hole 2.4 at 0,-4.5
hole 3.05 at -50,7
hole 3.05 at 50,7
hole 4 at -50,-8.24
hole 4 at 50,-8.24

## Footprint ALPS-6.25U-SMDRGB-FLIPPED (pad centres in mm)
Keyboard switch package!
drill 1.3 pad 2.54: ALPS1 -2.5,4; ALPS2 2.5,4.5
smd 1 x 0.75 bottom: B- 2.1,-5.225; G- -2.1,-5.225; LED+ 2.1,-3.775; R- -2.1,-3.775
hole 2.4 at 0,-4.5
hole 3.05 at -50,-7
hole 3.05 at 50,-7
hole 4 at -50,8.24
hole 4 at 50,8.24

## Footprint ALPS-6.25U-SMDRGB-FLIPPED-ROTATED (pad centres in mm)
Keyboard switch package!
drill 1.3 pad 2.54: ALPS1 -2.5,4; ALPS2 2.5,4.5
smd 1 x 0.75 bottom: B- 2.1,-5.225; G- -2.1,-5.225; LED+ 2.1,-3.775; R- -2.1,-3.775
hole 2.4 at 0,-4.5
hole 3.05 at -7,-50
hole 3.05 at -7,50
hole 4 at 8.24,-50
hole 4 at 8.24,50

## Footprint ALPS-6.25U-SMDRGB-ROTATED (pad centres in mm)
Keyboard switch package!
drill 1.3 pad 2.54: ALPS1 -2.5,4; ALPS2 2.5,4.5
smd 1 x 0.75 bottom: B- 2.1,-5.225; G- -2.1,-5.225; LED+ 2.1,-3.775; R- -2.1,-3.775
hole 2.4 at 0,-4.5
hole 3.05 at 7,-50
hole 3.05 at 7,50
hole 4 at -8.24,-50
hole 4 at -8.24,50

## Footprint ALPS-6.5U-SMDRGB (pad centres in mm)
Keyboard switch package!
drill 1.3 pad 2.54: ALPS1 -2.5,4; ALPS2 2.5,4.5
smd 1 x 0.75 bottom: B- 2.1,-5.225; G- -2.1,-5.225; LED+ 2.1,-3.775; R- -2.1,-3.775
hole 2.4 at 0,-4.5
hole 3.05 at -52.5,7
hole 3.05 at 52.5,7
hole 4 at -52.5,-8.24
hole 4 at 52.5,-8.24

## Footprint ALPS-6.5U-SMDRGB-FLIPPED (pad centres in mm)
Keyboard switch package!
drill 1.3 pad 2.54: ALPS1 -2.5,4; ALPS2 2.5,4.5
smd 1 x 0.75 bottom: B- 2.1,-5.225; G- -2.1,-5.225; LED+ 2.1,-3.775; R- -2.1,-3.775
hole 2.4 at 0,-4.5
hole 3.05 at -52.5,-7
hole 3.05 at 52.5,-7
hole 4 at -52.5,8.24
hole 4 at 52.5,8.24

## Footprint ALPS-6.5U-SMDRGB-FLIPPED-ROTATED (pad centres in mm)
Keyboard switch package!
drill 1.3 pad 2.54: ALPS1 -2.5,4; ALPS2 2.5,4.5
smd 1 x 0.75 bottom: B- 2.1,-5.225; G- -2.1,-5.225; LED+ 2.1,-3.775; R- -2.1,-3.775
hole 2.4 at 0,-4.5
hole 3.05 at -7,-52.5
hole 3.05 at -7,52.5
hole 4 at 8.24,-52.5
hole 4 at 8.24,52.5

## Footprint ALPS-6.5U-SMDRGB-ROTATED (pad centres in mm)
Keyboard switch package!
drill 1.3 pad 2.54: ALPS1 -2.5,4; ALPS2 2.5,4.5
smd 1 x 0.75 bottom: B- 2.1,-5.225; G- -2.1,-5.225; LED+ 2.1,-3.775; R- -2.1,-3.775
hole 2.4 at 0,-4.5
hole 3.05 at 7,-52.5
hole 3.05 at 7,52.5
hole 4 at -8.24,-52.5
hole 4 at -8.24,52.5

## Footprint ALPS-7U-SMDRGB (pad centres in mm)
Keyboard switch package!
drill 1.3 pad 2.54: ALPS1 -2.5,4; ALPS2 2.5,4.5
smd 1 x 0.75 bottom: B- 2.1,-5.225; G- -2.1,-5.225; LED+ 2.1,-3.775; R- -2.1,-3.775
hole 2.4 at 0,-4.5
hole 3.05 at -57.15,7
hole 3.05 at 57.15,7
hole 4 at -57.15,-8.24
hole 4 at 57.15,-8.24

## Footprint ALPS-7U-SMDRGB-FLIPPED (pad centres in mm)
Keyboard switch package!
drill 1.3 pad 2.54: ALPS1 -2.5,4; ALPS2 2.5,4.5
smd 1 x 0.75 bottom: B- 2.1,-5.225; G- -2.1,-5.225; LED+ 2.1,-3.775; R- -2.1,-3.775
hole 2.4 at 0,-4.5
hole 3.05 at -57.15,-7
hole 3.05 at 57.15,-7
hole 4 at -57.15,8.24
hole 4 at 57.15,8.24

## Footprint ALPS-7U-SMDRGB-FLIPPED-ROTATED (pad centres in mm)
Keyboard switch package!
drill 1.3 pad 2.54: ALPS1 -2.5,4; ALPS2 2.5,4.5
smd 1 x 0.75 bottom: B- 2.1,-5.225; G- -2.1,-5.225; LED+ 2.1,-3.775; R- -2.1,-3.775
hole 2.4 at 0,-4.5
hole 3.05 at -7,-57.15
hole 3.05 at -7,57.15
hole 4 at 8.24,-57.15
hole 4 at 8.24,57.15

## Footprint ALPS-7U-SMDRGB-ROTATED (pad centres in mm)
Keyboard switch package!
drill 1.3 pad 2.54: ALPS1 -2.5,4; ALPS2 2.5,4.5
smd 1 x 0.75 bottom: B- 2.1,-5.225; G- -2.1,-5.225; LED+ 2.1,-3.775; R- -2.1,-3.775
hole 2.4 at 0,-4.5
hole 3.05 at 7,-57.15
hole 3.05 at 7,57.15
hole 4 at -8.24,-57.15
hole 4 at -8.24,57.15

## Footprint ALPSMX-REVERSED-6U-SMDRGB (pad centres in mm)
Keyboard switch package!
drill 1.3 pad 2.54: ALPS1 -2.5,4; ALPS2 2.5,4.5; MX1 -3.81,2.54; MX2 2.54,5.08
smd 1 x 0.75 bottom: B- 2.1,-5.225; G- -2.1,-5.225; LED+ 2.1,-3.775; R- -2.1,-3.775
hole 4 at 0,0
hole 1.7 at -5.08,0
hole 1.7 at 5.08,0
hole 2.4 at 0,-4.5
hole 3.05 at -38.1,7
hole 3.05 at 57.15,7
hole 4 at -38.1,-8.24
hole 4 at 57.15,-8.24

## Footprint ALPSMX-REVERSED-6U-SMDRGB-FLIPPED (pad centres in mm)
Keyboard switch package!
drill 1.3 pad 2.54: ALPS1 -2.5,4; ALPS2 2.5,4.5; MX1 -3.81,2.54; MX2 2.54,5.08
smd 1 x 0.75 bottom: B- 2.1,-5.225; G- -2.1,-5.225; LED+ 2.1,-3.775; R- -2.1,-3.775
hole 4 at 0,0
hole 1.7 at -5.08,0
hole 1.7 at 5.08,0
hole 2.4 at 0,-4.5
hole 3.05 at -38.1,-7
hole 3.05 at 57.15,-7
hole 4 at -38.1,8.24
hole 4 at 57.15,8.24

## Footprint ALPSMX-REVERSED-6U-SMDRGB-FLIPPED-ROTATED (pad centres in mm)
Keyboard switch package!
drill 1.3 pad 2.54: ALPS1 -2.5,4; ALPS2 2.5,4.5; MX1 -3.81,2.54; MX2 2.54,5.08
smd 1 x 0.75 bottom: B- 2.1,-5.225; G- -2.1,-5.225; LED+ 2.1,-3.775; R- -2.1,-3.775
hole 4 at 0,0
hole 1.7 at -5.08,0
hole 1.7 at 5.08,0
hole 2.4 at 0,-4.5
hole 3.05 at -7,-38.1
hole 3.05 at -7,57.15
hole 4 at 8.24,-38.1
hole 4 at 8.24,57.15

## Footprint ALPSMX-REVERSED-6U-SMDRGB-ROTATED (pad centres in mm)
Keyboard switch package!
drill 1.3 pad 2.54: ALPS1 -2.5,4; ALPS2 2.5,4.5; MX1 -3.81,2.54; MX2 2.54,5.08
smd 1 x 0.75 bottom: B- 2.1,-5.225; G- -2.1,-5.225; LED+ 2.1,-3.775; R- -2.1,-3.775
hole 4 at 0,0
hole 1.7 at -5.08,0
hole 1.7 at 5.08,0
hole 2.4 at 0,-4.5
hole 3.05 at 7,-38.1
hole 3.05 at 7,57.15
hole 4 at -8.24,-38.1
hole 4 at -8.24,57.15

## Footprint ALPSMX-1U-SMDRGB (pad centres in mm)
Keyboard switch package!
drill 1.3 pad 2.54: ALPS1 -2.5,4; ALPS2 2.5,4.5; MX1 -3.81,2.54; MX2 2.54,5.08
smd 1 x 0.75 bottom: B- 2.1,-5.225; G- -2.1,-5.225; LED+ 2.1,-3.775; R- -2.1,-3.775
hole 4 at 0,0
hole 1.7 at -5.08,0
hole 1.7 at 5.08,0
hole 2.4 at 0,-4.5

## Footprint ALPSMX-2U-SMDRGB (pad centres in mm)
Keyboard switch package!
drill 1.3 pad 2.54: ALPS1 -2.5,4; ALPS2 2.5,4.5; MX1 -3.81,2.54; MX2 2.54,5.08
smd 1 x 0.75 bottom: B- 2.1,-5.225; G- -2.1,-5.225; LED+ 2.1,-3.775; R- -2.1,-3.775
hole 4 at 0,0
hole 1.7 at -5.08,0
hole 1.7 at 5.08,0
hole 2.4 at 0,-4.5
hole 3.05 at -11.9,7
hole 3.05 at 11.9,7
hole 4 at -11.9,-8.24
hole 4 at 11.9,-8.24

## Footprint ALPSMX-2U-SMDRGB-FLIPPED (pad centres in mm)
Keyboard switch package!
drill 1.3 pad 2.54: ALPS1 -2.5,4; ALPS2 2.5,4.5; MX1 -3.81,2.54; MX2 2.54,5.08
smd 1 x 0.75 bottom: B- 2.1,-5.225; G- -2.1,-5.225; LED+ 2.1,-3.775; R- -2.1,-3.775
hole 4 at 0,0
hole 1.7 at -5.08,0
hole 1.7 at 5.08,0
hole 2.4 at 0,-4.5
hole 3.05 at -11.9,-7
hole 3.05 at 11.9,-7
hole 4 at -11.9,8.24
hole 4 at 11.9,8.24

## Footprint ALPSMX-2U-SMDRGB-FLIPPED-ROTATED (pad centres in mm)
Keyboard switch package!
drill 1.3 pad 2.54: ALPS1 -2.5,4; ALPS2 2.5,4.5; MX1 -3.81,2.54; MX2 2.54,5.08
smd 1 x 0.75 bottom: B- 2.1,-5.225; G- -2.1,-5.225; LED+ 2.1,-3.775; R- -2.1,-3.775
hole 4 at 0,0
hole 1.7 at -5.08,0
hole 1.7 at 5.08,0
hole 2.4 at 0,-4.5
hole 3.05 at -7,-11.9
hole 3.05 at -7,11.9
hole 4 at 8.24,-11.9
hole 4 at 8.24,11.9

## Footprint ALPSMX-2U-SMDRGB-ROTATED (pad centres in mm)
Keyboard switch package!
drill 1.3 pad 2.54: ALPS1 -2.5,4; ALPS2 2.5,4.5; MX1 -3.81,2.54; MX2 2.54,5.08
smd 1 x 0.75 bottom: B- 2.1,-5.225; G- -2.1,-5.225; LED+ 2.1,-3.775; R- -2.1,-3.775
hole 4 at 0,0
hole 1.7 at -5.08,0
hole 1.7 at 5.08,0
hole 2.4 at 0,-4.5
hole 3.05 at 7,-11.9
hole 3.05 at 7,11.9
hole 4 at -8.24,-11.9
hole 4 at -8.24,11.9

## Footprint ALPSMX-4U-SMDRGB (pad centres in mm)
Keyboard switch package!
drill 1.3 pad 2.54: ALPS1 -2.5,4; ALPS2 2.5,4.5; MX1 -3.81,2.54; MX2 2.54,5.08
smd 1 x 0.75 bottom: B- 2.1,-5.225; G- -2.1,-5.225; LED+ 2.1,-3.775; R- -2.1,-3.775
hole 4 at 0,0
hole 1.7 at -5.08,0
hole 1.7 at 5.08,0
hole 2.4 at 0,-4.5
hole 3.05 at -28.625,7
hole 3.05 at 28.625,7
hole 4 at -28.625,-8.24
hole 4 at 28.625,-8.24

## Footprint ALPSMX-4U-SMDRGB-FLIPPED (pad centres in mm)
Keyboard switch package!
drill 1.3 pad 2.54: ALPS1 -2.5,4; ALPS2 2.5,4.5; MX1 -3.81,2.54; MX2 2.54,5.08
smd 1 x 0.75 bottom: B- 2.1,-5.225; G- -2.1,-5.225; LED+ 2.1,-3.775; R- -2.1,-3.775
hole 4 at 0,0
hole 1.7 at -5.08,0
hole 1.7 at 5.08,0
hole 2.4 at 0,-4.5
hole 3.05 at -28.625,-7
hole 3.05 at 28.625,-7
hole 4 at -28.625,8.24
hole 4 at 28.625,8.24

## Footprint ALPSMX-4U-SMDRGB-FLIPPED-ROTATED (pad centres in mm)
Keyboard switch package!
drill 1.3 pad 2.54: ALPS1 -2.5,4; ALPS2 2.5,4.5; MX1 -3.81,2.54; MX2 2.54,5.08
smd 1 x 0.75 bottom: B- 2.1,-5.225; G- -2.1,-5.225; LED+ 2.1,-3.775; R- -2.1,-3.775
hole 4 at 0,0
hole 1.7 at -5.08,0
hole 1.7 at 5.08,0
hole 2.4 at 0,-4.5
hole 3.05 at -7,-28.625
hole 3.05 at -7,28.625
hole 4 at 8.24,-28.625
hole 4 at 8.24,28.625

## Footprint ALPSMX-4U-SMDRGB-ROTATED (pad centres in mm)
Keyboard switch package!
drill 1.3 pad 2.54: ALPS1 -2.5,4; ALPS2 2.5,4.5; MX1 -3.81,2.54; MX2 2.54,5.08
smd 1 x 0.75 bottom: B- 2.1,-5.225; G- -2.1,-5.225; LED+ 2.1,-3.775; R- -2.1,-3.775
hole 4 at 0,0
hole 1.7 at -5.08,0
hole 1.7 at 5.08,0
hole 2.4 at 0,-4.5
hole 3.05 at 7,-28.625
hole 3.05 at 7,28.625
hole 4 at -8.24,-28.625
hole 4 at -8.24,28.625

## Footprint ALPSMX-6U-SMDRGB (pad centres in mm)
Keyboard switch package!
drill 1.3 pad 2.54: ALPS1 -2.5,4; ALPS2 2.5,4.5; MX1 -3.81,2.54; MX2 2.54,5.08
smd 1 x 0.75 bottom: B- 2.1,-5.225; G- -2.1,-5.225; LED+ 2.1,-3.775; R- -2.1,-3.775
hole 4 at 0,0
hole 1.7 at -5.08,0
hole 1.7 at 5.08,0
hole 2.4 at 0,-4.5
hole 3.05 at -57.15,7
hole 3.05 at 38.1,7
hole 4 at -57.15,-8.24
hole 4 at 38.1,-8.24

## Footprint ALPSMX-6U-SMDRGB-FLIPPED (pad centres in mm)
Keyboard switch package!
drill 1.3 pad 2.54: ALPS1 -2.5,4; ALPS2 2.5,4.5; MX1 -3.81,2.54; MX2 2.54,5.08
smd 1 x 0.75 bottom: B- 2.1,-5.225; G- -2.1,-5.225; LED+ 2.1,-3.775; R- -2.1,-3.775
hole 4 at 0,0
hole 1.7 at -5.08,0
hole 1.7 at 5.08,0
hole 2.4 at 0,-4.5
hole 3.05 at -57.15,-7
hole 3.05 at 38.1,-7
hole 4 at -57.15,8.24
hole 4 at 38.1,8.24

## Footprint ALPSMX-6U-SMDRGB-FLIPPED-ROTATED (pad centres in mm)
Keyboard switch package!
drill 1.3 pad 2.54: ALPS1 -2.5,4; ALPS2 2.5,4.5; MX1 -3.81,2.54; MX2 2.54,5.08
smd 1 x 0.75 bottom: B- 2.1,-5.225; G- -2.1,-5.225; LED+ 2.1,-3.775; R- -2.1,-3.775
hole 4 at 0,0
hole 1.7 at -5.08,0
hole 1.7 at 5.08,0
hole 2.4 at 0,-4.5
hole 3.05 at -7,-57.15
hole 3.05 at -7,38.1
hole 4 at 8.24,-57.15
hole 4 at 8.24,38.1

## Footprint ALPSMX-6U-SMDRGB-ROTATED (pad centres in mm)
Keyboard switch package!
drill 1.3 pad 2.54: ALPS1 -2.5,4; ALPS2 2.5,4.5; MX1 -3.81,2.54; MX2 2.54,5.08
smd 1 x 0.75 bottom: B- 2.1,-5.225; G- -2.1,-5.225; LED+ 2.1,-3.775; R- -2.1,-3.775
hole 4 at 0,0
hole 1.7 at -5.08,0
hole 1.7 at 5.08,0
hole 2.4 at 0,-4.5
hole 3.05 at 7,-57.15
hole 3.05 at 7,38.1
hole 4 at -8.24,-57.15
hole 4 at -8.24,38.1

## Footprint ALPSMX-6.25U-SMDRGB (pad centres in mm)
Keyboard switch package!
drill 1.3 pad 2.54: ALPS1 -2.5,4; ALPS2 2.5,4.5; MX1 -3.81,2.54; MX2 2.54,5.08
smd 1 x 0.75 bottom: B- 2.1,-5.225; G- -2.1,-5.225; LED+ 2.1,-3.775; R- -2.1,-3.775
hole 4 at 0,0
hole 1.7 at -5.08,0
hole 1.7 at 5.08,0
hole 2.4 at 0,-4.5
hole 3.05 at -50,7
hole 3.05 at 50,7
hole 4 at -50,-8.24
hole 4 at 50,-8.24

## Footprint ALPSMX-6.25U-SMDRGB-FLIPPED (pad centres in mm)
Keyboard switch package!
drill 1.3 pad 2.54: ALPS1 -2.5,4; ALPS2 2.5,4.5; MX1 -3.81,2.54; MX2 2.54,5.08
smd 1 x 0.75 bottom: B- 2.1,-5.225; G- -2.1,-5.225; LED+ 2.1,-3.775; R- -2.1,-3.775
hole 4 at 0,0
hole 1.7 at -5.08,0
hole 1.7 at 5.08,0
hole 2.4 at 0,-4.5
hole 3.05 at -50,-7
hole 3.05 at 50,-7
hole 4 at -50,8.24
hole 4 at 50,8.24

## Footprint ALPSMX-6.25U-SMDRGB-FLIPPED-ROTATED (pad centres in mm)
Keyboard switch package!
drill 1.3 pad 2.54: ALPS1 -2.5,4; ALPS2 2.5,4.5; MX1 -3.81,2.54; MX2 2.54,5.08
smd 1 x 0.75 bottom: B- 2.1,-5.225; G- -2.1,-5.225; LED+ 2.1,-3.775; R- -2.1,-3.775
hole 4 at 0,0
hole 1.7 at -5.08,0
hole 1.7 at 5.08,0
hole 2.4 at 0,-4.5
hole 3.05 at -7,-50
hole 3.05 at -7,50
hole 4 at 8.24,-50
hole 4 at 8.24,50

## Footprint ALPSMX-6.25U-SMDRGB-ROTATED (pad centres in mm)
Keyboard switch package!
drill 1.3 pad 2.54: ALPS1 -2.5,4; ALPS2 2.5,4.5; MX1 -3.81,2.54; MX2 2.54,5.08
smd 1 x 0.75 bottom: B- 2.1,-5.225; G- -2.1,-5.225; LED+ 2.1,-3.775; R- -2.1,-3.775
hole 4 at 0,0
hole 1.7 at -5.08,0
hole 1.7 at 5.08,0
hole 2.4 at 0,-4.5
hole 3.05 at 7,-50
hole 3.05 at 7,50
hole 4 at -8.24,-50
hole 4 at -8.24,50

## Footprint ALPSMX-6.5U-SMDRGB (pad centres in mm)
Keyboard switch package!
drill 1.3 pad 2.54: ALPS1 -2.5,4; ALPS2 2.5,4.5; MX1 -3.81,2.54; MX2 2.54,5.08
smd 1 x 0.75 bottom: B- 2.1,-5.225; G- -2.1,-5.225; LED+ 2.1,-3.775; R- -2.1,-3.775
hole 4 at 0,0
hole 1.7 at -5.08,0
hole 1.7 at 5.08,0
hole 2.4 at 0,-4.5
hole 3.05 at -52.5,7
hole 3.05 at 52.5,7
hole 4 at -52.5,-8.24
hole 4 at 52.5,-8.24

## Footprint ALPSMX-6.5U-SMDRGB-FLIPPED (pad centres in mm)
Keyboard switch package!
drill 1.3 pad 2.54: ALPS1 -2.5,4; ALPS2 2.5,4.5; MX1 -3.81,2.54; MX2 2.54,5.08
smd 1 x 0.75 bottom: B- 2.1,-5.225; G- -2.1,-5.225; LED+ 2.1,-3.775; R- -2.1,-3.775
hole 4 at 0,0
hole 1.7 at -5.08,0
hole 1.7 at 5.08,0
hole 2.4 at 0,-4.5
hole 3.05 at -52.5,-7
hole 3.05 at 52.5,-7
hole 4 at -52.5,8.24
hole 4 at 52.5,8.24

## Footprint ALPSMX-6.5U-SMDRGB-FLIPPED-ROTATED (pad centres in mm)
Keyboard switch package!
drill 1.3 pad 2.54: ALPS1 -2.5,4; ALPS2 2.5,4.5; MX1 -3.81,2.54; MX2 2.54,5.08
smd 1 x 0.75 bottom: B- 2.1,-5.225; G- -2.1,-5.225; LED+ 2.1,-3.775; R- -2.1,-3.775
hole 4 at 0,0
hole 1.7 at -5.08,0
hole 1.7 at 5.08,0
hole 2.4 at 0,-4.5
hole 3.05 at -7,-52.5
hole 3.05 at -7,52.5
hole 4 at 8.24,-52.5
hole 4 at 8.24,52.5

## Footprint ALPSMX-6.5U-SMDRGB-ROTATED (pad centres in mm)
Keyboard switch package!
drill 1.3 pad 2.54: ALPS1 -2.5,4; ALPS2 2.5,4.5; MX1 -3.81,2.54; MX2 2.54,5.08
smd 1 x 0.75 bottom: B- 2.1,-5.225; G- -2.1,-5.225; LED+ 2.1,-3.775; R- -2.1,-3.775
hole 4 at 0,0
hole 1.7 at -5.08,0
hole 1.7 at 5.08,0
hole 2.4 at 0,-4.5
hole 3.05 at 7,-52.5
hole 3.05 at 7,52.5
hole 4 at -8.24,-52.5
hole 4 at -8.24,52.5

## Footprint ALPSMX-7U-SMDRGB (pad centres in mm)
Keyboard switch package!
drill 1.3 pad 2.54: ALPS1 -2.5,4; ALPS2 2.5,4.5; MX1 -3.81,2.54; MX2 2.54,5.08
smd 1 x 0.75 bottom: B- 2.1,-5.225; G- -2.1,-5.225; LED+ 2.1,-3.775; R- -2.1,-3.775
hole 4 at 0,0
hole 1.7 at -5.08,0
hole 1.7 at 5.08,0
hole 2.4 at 0,-4.5
hole 3.05 at -57.15,7
hole 3.05 at 57.15,7
hole 4 at -57.15,-8.24
hole 4 at 57.15,-8.24

## Footprint ALPSMX-7U-SMDRGB-FLIPPED (pad centres in mm)
Keyboard switch package!
drill 1.3 pad 2.54: ALPS1 -2.5,4; ALPS2 2.5,4.5; MX1 -3.81,2.54; MX2 2.54,5.08
smd 1 x 0.75 bottom: B- 2.1,-5.225; G- -2.1,-5.225; LED+ 2.1,-3.775; R- -2.1,-3.775
hole 4 at 0,0
hole 1.7 at -5.08,0
hole 1.7 at 5.08,0
hole 2.4 at 0,-4.5
hole 3.05 at -57.15,-7
hole 3.05 at 57.15,-7
hole 4 at -57.15,8.24
hole 4 at 57.15,8.24

## Footprint ALPSMX-7U-SMDRGB-FLIPPED-ROTATED (pad centres in mm)
Keyboard switch package!
drill 1.3 pad 2.54: ALPS1 -2.5,4; ALPS2 2.5,4.5; MX1 -3.81,2.54; MX2 2.54,5.08
smd 1 x 0.75 bottom: B- 2.1,-5.225; G- -2.1,-5.225; LED+ 2.1,-3.775; R- -2.1,-3.775
hole 4 at 0,0
hole 1.7 at -5.08,0
hole 1.7 at 5.08,0
hole 2.4 at 0,-4.5
hole 3.05 at -7,-57.15
hole 3.05 at -7,57.15
hole 4 at 8.24,-57.15
hole 4 at 8.24,57.15

## Footprint ALPSMX-7U-SMDRGB-ROTATED (pad centres in mm)
Keyboard switch package!
drill 1.3 pad 2.54: ALPS1 -2.5,4; ALPS2 2.5,4.5; MX1 -3.81,2.54; MX2 2.54,5.08
smd 1 x 0.75 bottom: B- 2.1,-5.225; G- -2.1,-5.225; LED+ 2.1,-3.775; R- -2.1,-3.775
hole 4 at 0,0
hole 1.7 at -5.08,0
hole 1.7 at 5.08,0
hole 2.4 at 0,-4.5
hole 3.05 at 7,-57.15
hole 3.05 at 7,57.15
hole 4 at -8.24,-57.15
hole 4 at -8.24,57.15

## Footprint ALPSMXMIR-REVERSED-6U-SMDRGB (pad centres in mm)
Keyboard switch package!
drill 1.3 pad 2.54: ALPS1 -2.5,4; ALPS2 2.5,4.5; ALPS3 -2.5,4.5; ALPS4 2.5,4; MX1 -3.81,2.54; MX2 2.54,5.08; MX3 -2.54,5.08; MX4 3.81,2.54
smd 1 x 0.75 bottom: B- 2.1,-5.225; G- -2.1,-5.225; LED+ 2.1,-3.775; R- -2.1,-3.775
hole 4 at 0,0
hole 1.7 at -5.08,0
hole 1.7 at 5.08,0
hole 2.4 at 0,-4.5
hole 3.05 at -38.1,7
hole 3.05 at 57.15,7
hole 4 at -38.1,-8.24
hole 4 at 57.15,-8.24

## Footprint ALPSMXMIR-REVERSED-6U-SMDRGB-FLIPPED (pad centres in mm)
Keyboard switch package!
drill 1.3 pad 2.54: ALPS1 -2.5,4; ALPS2 2.5,4.5; ALPS3 -2.5,4.5; ALPS4 2.5,4; MX1 -3.81,2.54; MX2 2.54,5.08; MX3 -2.54,5.08; MX4 3.81,2.54
smd 1 x 0.75 bottom: B- 2.1,-5.225; G- -2.1,-5.225; LED+ 2.1,-3.775; R- -2.1,-3.775
hole 4 at 0,0
hole 1.7 at -5.08,0
hole 1.7 at 5.08,0
hole 2.4 at 0,-4.5
hole 3.05 at -38.1,-7
hole 3.05 at 57.15,-7
hole 4 at -38.1,8.24
hole 4 at 57.15,8.24

## Footprint ALPSMXMIR-REVERSED-6U-SMDRGB-FLIPPED-ROTATED (pad centres in mm)
Keyboard switch package!
drill 1.3 pad 2.54: ALPS1 -2.5,4; ALPS2 2.5,4.5; ALPS3 -2.5,4.5; ALPS4 2.5,4; MX1 -3.81,2.54; MX2 2.54,5.08; MX3 -2.54,5.08; MX4 3.81,2.54
smd 1 x 0.75 bottom: B- 2.1,-5.225; G- -2.1,-5.225; LED+ 2.1,-3.775; R- -2.1,-3.775
hole 4 at 0,0
hole 1.7 at -5.08,0
hole 1.7 at 5.08,0
hole 2.4 at 0,-4.5
hole 3.05 at -7,-38.1
hole 3.05 at -7,57.15
hole 4 at 8.24,-38.1
hole 4 at 8.24,57.15

## Footprint ALPSMXMIR-REVERSED-6U-SMDRGB-ROTATED (pad centres in mm)
Keyboard switch package!
drill 1.3 pad 2.54: ALPS1 -2.5,4; ALPS2 2.5,4.5; ALPS3 -2.5,4.5; ALPS4 2.5,4; MX1 -3.81,2.54; MX2 2.54,5.08; MX3 -2.54,5.08; MX4 3.81,2.54
smd 1 x 0.75 bottom: B- 2.1,-5.225; G- -2.1,-5.225; LED+ 2.1,-3.775; R- -2.1,-3.775
hole 4 at 0,0
hole 1.7 at -5.08,0
hole 1.7 at 5.08,0
hole 2.4 at 0,-4.5
hole 3.05 at 7,-38.1
hole 3.05 at 7,57.15
hole 4 at -8.24,-38.1
hole 4 at -8.24,57.15

## Footprint ALPSMXMIR-1U-SMDRGB (pad centres in mm)
Keyboard switch package!
drill 1.3 pad 2.54: ALPS1 -2.5,4; ALPS2 2.5,4.5; ALPS3 -2.5,4.5; ALPS4 2.5,4; MX1 -3.81,2.54; MX2 2.54,5.08; MX3 -2.54,5.08; MX4 3.81,2.54
smd 1 x 0.75 bottom: B- 2.1,-5.225; G- -2.1,-5.225; LED+ 2.1,-3.775; R- -2.1,-3.775
hole 4 at 0,0
hole 1.7 at -5.08,0
hole 1.7 at 5.08,0
hole 2.4 at 0,-4.5

## Footprint ALPSMXMIR-2U-SMDRGB (pad centres in mm)
Keyboard switch package!
drill 1.3 pad 2.54: ALPS1 -2.5,4; ALPS2 2.5,4.5; ALPS3 -2.5,4.5; ALPS4 2.5,4; MX1 -3.81,2.54; MX2 2.54,5.08; MX3 -2.54,5.08; MX4 3.81,2.54
smd 1 x 0.75 bottom: B- 2.1,-5.225; G- -2.1,-5.225; LED+ 2.1,-3.775; R- -2.1,-3.775
hole 4 at 0,0
hole 1.7 at -5.08,0
hole 1.7 at 5.08,0
hole 2.4 at 0,-4.5
hole 3.05 at -11.9,7
hole 3.05 at 11.9,7
hole 4 at -11.9,-8.24
hole 4 at 11.9,-8.24

## Footprint ALPSMXMIR-2U-SMDRGB-FLIPPED (pad centres in mm)
Keyboard switch package!
drill 1.3 pad 2.54: ALPS1 -2.5,4; ALPS2 2.5,4.5; ALPS3 -2.5,4.5; ALPS4 2.5,4; MX1 -3.81,2.54; MX2 2.54,5.08; MX3 -2.54,5.08; MX4 3.81,2.54
smd 1 x 0.75 bottom: B- 2.1,-5.225; G- -2.1,-5.225; LED+ 2.1,-3.775; R- -2.1,-3.775
hole 4 at 0,0
hole 1.7 at -5.08,0
hole 1.7 at 5.08,0
hole 2.4 at 0,-4.5
hole 3.05 at -11.9,-7
hole 3.05 at 11.9,-7
hole 4 at -11.9,8.24
hole 4 at 11.9,8.24

## Footprint ALPSMXMIR-2U-SMDRGB-FLIPPED-ROTATED (pad centres in mm)
Keyboard switch package!
drill 1.3 pad 2.54: ALPS1 -2.5,4; ALPS2 2.5,4.5; ALPS3 -2.5,4.5; ALPS4 2.5,4; MX1 -3.81,2.54; MX2 2.54,5.08; MX3 -2.54,5.08; MX4 3.81,2.54
smd 1 x 0.75 bottom: B- 2.1,-5.225; G- -2.1,-5.225; LED+ 2.1,-3.775; R- -2.1,-3.775
hole 4 at 0,0
hole 1.7 at -5.08,0
hole 1.7 at 5.08,0
hole 2.4 at 0,-4.5
hole 3.05 at -7,-11.9
hole 3.05 at -7,11.9
hole 4 at 8.24,-11.9
hole 4 at 8.24,11.9

## Footprint ALPSMXMIR-2U-SMDRGB-ROTATED (pad centres in mm)
Keyboard switch package!
drill 1.3 pad 2.54: ALPS1 -2.5,4; ALPS2 2.5,4.5; ALPS3 -2.5,4.5; ALPS4 2.5,4; MX1 -3.81,2.54; MX2 2.54,5.08; MX3 -2.54,5.08; MX4 3.81,2.54
smd 1 x 0.75 bottom: B- 2.1,-5.225; G- -2.1,-5.225; LED+ 2.1,-3.775; R- -2.1,-3.775
hole 4 at 0,0
hole 1.7 at -5.08,0
hole 1.7 at 5.08,0
hole 2.4 at 0,-4.5
hole 3.05 at 7,-11.9
hole 3.05 at 7,11.9
hole 4 at -8.24,-11.9
hole 4 at -8.24,11.9

## Footprint ALPSMXMIR-4U-SMDRGB (pad centres in mm)
Keyboard switch package!
drill 1.3 pad 2.54: ALPS1 -2.5,4; ALPS2 2.5,4.5; ALPS3 -2.5,4.5; ALPS4 2.5,4; MX1 -3.81,2.54; MX2 2.54,5.08; MX3 -2.54,5.08; MX4 3.81,2.54
smd 1 x 0.75 bottom: B- 2.1,-5.225; G- -2.1,-5.225; LED+ 2.1,-3.775; R- -2.1,-3.775
hole 4 at 0,0
hole 1.7 at -5.08,0
hole 1.7 at 5.08,0
hole 2.4 at 0,-4.5
hole 3.05 at -28.625,7
hole 3.05 at 28.625,7
hole 4 at -28.625,-8.24
hole 4 at 28.625,-8.24

## Footprint ALPSMXMIR-4U-SMDRGB-FLIPPED (pad centres in mm)
Keyboard switch package!
drill 1.3 pad 2.54: ALPS1 -2.5,4; ALPS2 2.5,4.5; ALPS3 -2.5,4.5; ALPS4 2.5,4; MX1 -3.81,2.54; MX2 2.54,5.08; MX3 -2.54,5.08; MX4 3.81,2.54
smd 1 x 0.75 bottom: B- 2.1,-5.225; G- -2.1,-5.225; LED+ 2.1,-3.775; R- -2.1,-3.775
hole 4 at 0,0
hole 1.7 at -5.08,0
hole 1.7 at 5.08,0
hole 2.4 at 0,-4.5
hole 3.05 at -28.625,-7
hole 3.05 at 28.625,-7
hole 4 at -28.625,8.24
hole 4 at 28.625,8.24

## Footprint ALPSMXMIR-4U-SMDRGB-FLIPPED-ROTATED (pad centres in mm)
Keyboard switch package!
drill 1.3 pad 2.54: ALPS1 -2.5,4; ALPS2 2.5,4.5; ALPS3 -2.5,4.5; ALPS4 2.5,4; MX1 -3.81,2.54; MX2 2.54,5.08; MX3 -2.54,5.08; MX4 3.81,2.54
smd 1 x 0.75 bottom: B- 2.1,-5.225; G- -2.1,-5.225; LED+ 2.1,-3.775; R- -2.1,-3.775
hole 4 at 0,0
hole 1.7 at -5.08,0
hole 1.7 at 5.08,0
hole 2.4 at 0,-4.5
hole 3.05 at -7,-28.625
hole 3.05 at -7,28.625
hole 4 at 8.24,-28.625
hole 4 at 8.24,28.625

## Footprint ALPSMXMIR-4U-SMDRGB-ROTATED (pad centres in mm)
Keyboard switch package!
drill 1.3 pad 2.54: ALPS1 -2.5,4; ALPS2 2.5,4.5; ALPS3 -2.5,4.5; ALPS4 2.5,4; MX1 -3.81,2.54; MX2 2.54,5.08; MX3 -2.54,5.08; MX4 3.81,2.54
smd 1 x 0.75 bottom: B- 2.1,-5.225; G- -2.1,-5.225; LED+ 2.1,-3.775; R- -2.1,-3.775
hole 4 at 0,0
hole 1.7 at -5.08,0
hole 1.7 at 5.08,0
hole 2.4 at 0,-4.5
hole 3.05 at 7,-28.625
hole 3.05 at 7,28.625
hole 4 at -8.24,-28.625
hole 4 at -8.24,28.625

## Footprint ALPSMXMIR-6U-SMDRGB (pad centres in mm)
Keyboard switch package!
drill 1.3 pad 2.54: ALPS1 -2.5,4; ALPS2 2.5,4.5; ALPS3 -2.5,4.5; ALPS4 2.5,4; MX1 -3.81,2.54; MX2 2.54,5.08; MX3 -2.54,5.08; MX4 3.81,2.54
smd 1 x 0.75 bottom: B- 2.1,-5.225; G- -2.1,-5.225; LED+ 2.1,-3.775; R- -2.1,-3.775
hole 4 at 0,0
hole 1.7 at -5.08,0
hole 1.7 at 5.08,0
hole 2.4 at 0,-4.5
hole 3.05 at -57.15,7
hole 3.05 at 38.1,7
hole 4 at -57.15,-8.24
hole 4 at 38.1,-8.24

## Footprint ALPSMXMIR-6U-SMDRGB-FLIPPED (pad centres in mm)
Keyboard switch package!
drill 1.3 pad 2.54: ALPS1 -2.5,4; ALPS2 2.5,4.5; ALPS3 -2.5,4.5; ALPS4 2.5,4; MX1 -3.81,2.54; MX2 2.54,5.08; MX3 -2.54,5.08; MX4 3.81,2.54
smd 1 x 0.75 bottom: B- 2.1,-5.225; G- -2.1,-5.225; LED+ 2.1,-3.775; R- -2.1,-3.775
hole 4 at 0,0
hole 1.7 at -5.08,0
hole 1.7 at 5.08,0
hole 2.4 at 0,-4.5
hole 3.05 at -57.15,-7
hole 3.05 at 38.1,-7
hole 4 at -57.15,8.24
hole 4 at 38.1,8.24

## Footprint ALPSMXMIR-6U-SMDRGB-FLIPPED-ROTATED (pad centres in mm)
Keyboard switch package!
drill 1.3 pad 2.54: ALPS1 -2.5,4; ALPS2 2.5,4.5; ALPS3 -2.5,4.5; ALPS4 2.5,4; MX1 -3.81,2.54; MX2 2.54,5.08; MX3 -2.54,5.08; MX4 3.81,2.54
smd 1 x 0.75 bottom: B- 2.1,-5.225; G- -2.1,-5.225; LED+ 2.1,-3.775; R- -2.1,-3.775
hole 4 at 0,0
hole 1.7 at -5.08,0
hole 1.7 at 5.08,0
hole 2.4 at 0,-4.5
hole 3.05 at -7,-57.15
hole 3.05 at -7,38.1
hole 4 at 8.24,-57.15
hole 4 at 8.24,38.1

## Footprint ALPSMXMIR-6U-SMDRGB-ROTATED (pad centres in mm)
Keyboard switch package!
drill 1.3 pad 2.54: ALPS1 -2.5,4; ALPS2 2.5,4.5; ALPS3 -2.5,4.5; ALPS4 2.5,4; MX1 -3.81,2.54; MX2 2.54,5.08; MX3 -2.54,5.08; MX4 3.81,2.54
smd 1 x 0.75 bottom: B- 2.1,-5.225; G- -2.1,-5.225; LED+ 2.1,-3.775; R- -2.1,-3.775
hole 4 at 0,0
hole 1.7 at -5.08,0
hole 1.7 at 5.08,0
hole 2.4 at 0,-4.5
hole 3.05 at 7,-57.15
hole 3.05 at 7,38.1
hole 4 at -8.24,-57.15
hole 4 at -8.24,38.1

## Footprint ALPSMXMIR-6.25U-SMDRGB (pad centres in mm)
Keyboard switch package!
drill 1.3 pad 2.54: ALPS1 -2.5,4; ALPS2 2.5,4.5; ALPS3 -2.5,4.5; ALPS4 2.5,4; MX1 -3.81,2.54; MX2 2.54,5.08; MX3 -2.54,5.08; MX4 3.81,2.54
smd 1 x 0.75 bottom: B- 2.1,-5.225; G- -2.1,-5.225; LED+ 2.1,-3.775; R- -2.1,-3.775
hole 4 at 0,0
hole 1.7 at -5.08,0
hole 1.7 at 5.08,0
hole 2.4 at 0,-4.5
hole 3.05 at -50,7
hole 3.05 at 50,7
hole 4 at -50,-8.24
hole 4 at 50,-8.24

## Footprint ALPSMXMIR-6.25U-SMDRGB-FLIPPED (pad centres in mm)
Keyboard switch package!
drill 1.3 pad 2.54: ALPS1 -2.5,4; ALPS2 2.5,4.5; ALPS3 -2.5,4.5; ALPS4 2.5,4; MX1 -3.81,2.54; MX2 2.54,5.08; MX3 -2.54,5.08; MX4 3.81,2.54
smd 1 x 0.75 bottom: B- 2.1,-5.225; G- -2.1,-5.225; LED+ 2.1,-3.775; R- -2.1,-3.775
hole 4 at 0,0
hole 1.7 at -5.08,0
hole 1.7 at 5.08,0
hole 2.4 at 0,-4.5
hole 3.05 at -50,-7
hole 3.05 at 50,-7
hole 4 at -50,8.24
hole 4 at 50,8.24

## Footprint ALPSMXMIR-6.25U-SMDRGB-FLIPPED-ROTATED (pad centres in mm)
Keyboard switch package!
drill 1.3 pad 2.54: ALPS1 -2.5,4; ALPS2 2.5,4.5; ALPS3 -2.5,4.5; ALPS4 2.5,4; MX1 -3.81,2.54; MX2 2.54,5.08; MX3 -2.54,5.08; MX4 3.81,2.54
smd 1 x 0.75 bottom: B- 2.1,-5.225; G- -2.1,-5.225; LED+ 2.1,-3.775; R- -2.1,-3.775
hole 4 at 0,0
hole 1.7 at -5.08,0
hole 1.7 at 5.08,0
hole 2.4 at 0,-4.5
hole 3.05 at -7,-50
hole 3.05 at -7,50
hole 4 at 8.24,-50
hole 4 at 8.24,50

## Footprint ALPSMXMIR-6.25U-SMDRGB-ROTATED (pad centres in mm)
Keyboard switch package!
drill 1.3 pad 2.54: ALPS1 -2.5,4; ALPS2 2.5,4.5; ALPS3 -2.5,4.5; ALPS4 2.5,4; MX1 -3.81,2.54; MX2 2.54,5.08; MX3 -2.54,5.08; MX4 3.81,2.54
smd 1 x 0.75 bottom: B- 2.1,-5.225; G- -2.1,-5.225; LED+ 2.1,-3.775; R- -2.1,-3.775
hole 4 at 0,0
hole 1.7 at -5.08,0
hole 1.7 at 5.08,0
hole 2.4 at 0,-4.5
hole 3.05 at 7,-50
hole 3.05 at 7,50
hole 4 at -8.24,-50
hole 4 at -8.24,50

## Footprint ALPSMXMIR-6.5U-SMDRGB (pad centres in mm)
Keyboard switch package!
drill 1.3 pad 2.54: ALPS1 -2.5,4; ALPS2 2.5,4.5; ALPS3 -2.5,4.5; ALPS4 2.5,4; MX1 -3.81,2.54; MX2 2.54,5.08; MX3 -2.54,5.08; MX4 3.81,2.54
smd 1 x 0.75 bottom: B- 2.1,-5.225; G- -2.1,-5.225; LED+ 2.1,-3.775; R- -2.1,-3.775
hole 4 at 0,0
hole 1.7 at -5.08,0
hole 1.7 at 5.08,0
hole 2.4 at 0,-4.5
hole 3.05 at -52.5,7
hole 3.05 at 52.5,7
hole 4 at -52.5,-8.24
hole 4 at 52.5,-8.24

## Footprint ALPSMXMIR-6.5U-SMDRGB-FLIPPED (pad centres in mm)
Keyboard switch package!
drill 1.3 pad 2.54: ALPS1 -2.5,4; ALPS2 2.5,4.5; ALPS3 -2.5,4.5; ALPS4 2.5,4; MX1 -3.81,2.54; MX2 2.54,5.08; MX3 -2.54,5.08; MX4 3.81,2.54
smd 1 x 0.75 bottom: B- 2.1,-5.225; G- -2.1,-5.225; LED+ 2.1,-3.775; R- -2.1,-3.775
hole 4 at 0,0
hole 1.7 at -5.08,0
hole 1.7 at 5.08,0
hole 2.4 at 0,-4.5
hole 3.05 at -52.5,-7
hole 3.05 at 52.5,-7
hole 4 at -52.5,8.24
hole 4 at 52.5,8.24

## Footprint ALPSMXMIR-6.5U-SMDRGB-FLIPPED-ROTATED (pad centres in mm)
Keyboard switch package!
drill 1.3 pad 2.54: ALPS1 -2.5,4; ALPS2 2.5,4.5; ALPS3 -2.5,4.5; ALPS4 2.5,4; MX1 -3.81,2.54; MX2 2.54,5.08; MX3 -2.54,5.08; MX4 3.81,2.54
smd 1 x 0.75 bottom: B- 2.1,-5.225; G- -2.1,-5.225; LED+ 2.1,-3.775; R- -2.1,-3.775
hole 4 at 0,0
hole 1.7 at -5.08,0
hole 1.7 at 5.08,0
hole 2.4 at 0,-4.5
hole 3.05 at -7,-52.5
hole 3.05 at -7,52.5
hole 4 at 8.24,-52.5
hole 4 at 8.24,52.5

## Footprint ALPSMXMIR-6.5U-SMDRGB-ROTATED (pad centres in mm)
Keyboard switch package!
drill 1.3 pad 2.54: ALPS1 -2.5,4; ALPS2 2.5,4.5; ALPS3 -2.5,4.5; ALPS4 2.5,4; MX1 -3.81,2.54; MX2 2.54,5.08; MX3 -2.54,5.08; MX4 3.81,2.54
smd 1 x 0.75 bottom: B- 2.1,-5.225; G- -2.1,-5.225; LED+ 2.1,-3.775; R- -2.1,-3.775
hole 4 at 0,0
hole 1.7 at -5.08,0
hole 1.7 at 5.08,0
hole 2.4 at 0,-4.5
hole 3.05 at 7,-52.5
hole 3.05 at 7,52.5
hole 4 at -8.24,-52.5
hole 4 at -8.24,52.5

## Footprint ALPSMXMIR-7U-SMDRGB (pad centres in mm)
Keyboard switch package!
drill 1.3 pad 2.54: ALPS1 -2.5,4; ALPS2 2.5,4.5; ALPS3 -2.5,4.5; ALPS4 2.5,4; MX1 -3.81,2.54; MX2 2.54,5.08; MX3 -2.54,5.08; MX4 3.81,2.54
smd 1 x 0.75 bottom: B- 2.1,-5.225; G- -2.1,-5.225; LED+ 2.1,-3.775; R- -2.1,-3.775
hole 4 at 0,0
hole 1.7 at -5.08,0
hole 1.7 at 5.08,0
hole 2.4 at 0,-4.5
hole 3.05 at -57.15,7
hole 3.05 at 57.15,7
hole 4 at -57.15,-8.24
hole 4 at 57.15,-8.24

## Footprint ALPSMXMIR-7U-SMDRGB-FLIPPED (pad centres in mm)
Keyboard switch package!
drill 1.3 pad 2.54: ALPS1 -2.5,4; ALPS2 2.5,4.5; ALPS3 -2.5,4.5; ALPS4 2.5,4; MX1 -3.81,2.54; MX2 2.54,5.08; MX3 -2.54,5.08; MX4 3.81,2.54
smd 1 x 0.75 bottom: B- 2.1,-5.225; G- -2.1,-5.225; LED+ 2.1,-3.775; R- -2.1,-3.775
hole 4 at 0,0
hole 1.7 at -5.08,0
hole 1.7 at 5.08,0
hole 2.4 at 0,-4.5
hole 3.05 at -57.15,-7
hole 3.05 at 57.15,-7
hole 4 at -57.15,8.24
hole 4 at 57.15,8.24

## Footprint ALPSMXMIR-7U-SMDRGB-FLIPPED-ROTATED (pad centres in mm)
Keyboard switch package!
drill 1.3 pad 2.54: ALPS1 -2.5,4; ALPS2 2.5,4.5; ALPS3 -2.5,4.5; ALPS4 2.5,4; MX1 -3.81,2.54; MX2 2.54,5.08; MX3 -2.54,5.08; MX4 3.81,2.54
smd 1 x 0.75 bottom: B- 2.1,-5.225; G- -2.1,-5.225; LED+ 2.1,-3.775; R- -2.1,-3.775
hole 4 at 0,0
hole 1.7 at -5.08,0
hole 1.7 at 5.08,0
hole 2.4 at 0,-4.5
hole 3.05 at -7,-57.15
hole 3.05 at -7,57.15
hole 4 at 8.24,-57.15
hole 4 at 8.24,57.15

## Footprint ALPSMXMIR-7U-SMDRGB-ROTATED (pad centres in mm)
Keyboard switch package!
drill 1.3 pad 2.54: ALPS1 -2.5,4; ALPS2 2.5,4.5; ALPS3 -2.5,4.5; ALPS4 2.5,4; MX1 -3.81,2.54; MX2 2.54,5.08; MX3 -2.54,5.08; MX4 3.81,2.54
smd 1 x 0.75 bottom: B- 2.1,-5.225; G- -2.1,-5.225; LED+ 2.1,-3.775; R- -2.1,-3.775
hole 4 at 0,0
hole 1.7 at -5.08,0
hole 1.7 at 5.08,0
hole 2.4 at 0,-4.5
hole 3.05 at 7,-57.15
hole 3.05 at 7,57.15
hole 4 at -8.24,-57.15
hole 4 at -8.24,57.15

## Footprint MX-REVERSED-6U-SMDRGB (pad centres in mm)
Keyboard switch package!
smd 1 x 0.75 bottom: B- 2.1,-5.225; G- -2.1,-5.225; LED+ 2.1,-3.775; R- -2.1,-3.775
drill 1.3 pad 2.54: MX1 -3.81,2.54; MX2 2.54,5.08
hole 4 at 0,0
hole 1.7 at -5.08,0
hole 1.7 at 5.08,0
hole 2.4 at 0,-4.5
hole 3.05 at -38.1,7
hole 3.05 at 57.15,7
hole 4 at -38.1,-8.24
hole 4 at 57.15,-8.24

## Footprint MX-REVERSED-6U-SMDRGB-FLIPPED (pad centres in mm)
Keyboard switch package!
smd 1 x 0.75 bottom: B- 2.1,-5.225; G- -2.1,-5.225; LED+ 2.1,-3.775; R- -2.1,-3.775
drill 1.3 pad 2.54: MX1 -3.81,2.54; MX2 2.54,5.08
hole 4 at 0,0
hole 1.7 at -5.08,0
hole 1.7 at 5.08,0
hole 2.4 at 0,-4.5
hole 3.05 at -38.1,-7
hole 3.05 at 57.15,-7
hole 4 at -38.1,8.24
hole 4 at 57.15,8.24

## Footprint MX-REVERSED-6U-SMDRGB-FLIPPED-ROTATED (pad centres in mm)
Keyboard switch package!
smd 1 x 0.75 bottom: B- 2.1,-5.225; G- -2.1,-5.225; LED+ 2.1,-3.775; R- -2.1,-3.775
drill 1.3 pad 2.54: MX1 -3.81,2.54; MX2 2.54,5.08
hole 4 at 0,0
hole 1.7 at -5.08,0
hole 1.7 at 5.08,0
hole 2.4 at 0,-4.5
hole 3.05 at -7,-38.1
hole 3.05 at -7,57.15
hole 4 at 8.24,-38.1
hole 4 at 8.24,57.15

## Footprint MX-REVERSED-6U-SMDRGB-ROTATED (pad centres in mm)
Keyboard switch package!
smd 1 x 0.75 bottom: B- 2.1,-5.225; G- -2.1,-5.225; LED+ 2.1,-3.775; R- -2.1,-3.775
drill 1.3 pad 2.54: MX1 -3.81,2.54; MX2 2.54,5.08
hole 4 at 0,0
hole 1.7 at -5.08,0
hole 1.7 at 5.08,0
hole 2.4 at 0,-4.5
hole 3.05 at 7,-38.1
hole 3.05 at 7,57.15
hole 4 at -8.24,-38.1
hole 4 at -8.24,57.15

## Footprint MX-1U-SMDRGB (pad centres in mm)
Keyboard switch package!
smd 1 x 0.75 bottom: B- 2.1,-5.225; G- -2.1,-5.225; LED+ 2.1,-3.775; R- -2.1,-3.775
drill 1.3 pad 2.54: MX1 -3.81,2.54; MX2 2.54,5.08
hole 4 at 0,0
hole 1.7 at -5.08,0
hole 1.7 at 5.08,0
hole 2.4 at 0,-4.5

## Footprint MX-2U-SMDRGB (pad centres in mm)
Keyboard switch package!
smd 1 x 0.75 bottom: B- 2.1,-5.225; G- -2.1,-5.225; LED+ 2.1,-3.775; R- -2.1,-3.775
drill 1.3 pad 2.54: MX1 -3.81,2.54; MX2 2.54,5.08
hole 4 at 0,0
hole 1.7 at -5.08,0
hole 1.7 at 5.08,0
hole 2.4 at 0,-4.5
hole 3.05 at -11.9,7
hole 3.05 at 11.9,7
hole 4 at -11.9,-8.24
hole 4 at 11.9,-8.24

## Footprint MX-2U-SMDRGB-FLIPPED (pad centres in mm)
Keyboard switch package!
smd 1 x 0.75 bottom: B- 2.1,-5.225; G- -2.1,-5.225; LED+ 2.1,-3.775; R- -2.1,-3.775
drill 1.3 pad 2.54: MX1 -3.81,2.54; MX2 2.54,5.08
hole 4 at 0,0
hole 1.7 at -5.08,0
hole 1.7 at 5.08,0
hole 2.4 at 0,-4.5
hole 3.05 at -11.9,-7
hole 3.05 at 11.9,-7
hole 4 at -11.9,8.24
hole 4 at 11.9,8.24

## Footprint MX-2U-SMDRGB-FLIPPED-ROTATED (pad centres in mm)
Keyboard switch package!
smd 1 x 0.75 bottom: B- 2.1,-5.225; G- -2.1,-5.225; LED+ 2.1,-3.775; R- -2.1,-3.775
drill 1.3 pad 2.54: MX1 -3.81,2.54; MX2 2.54,5.08
hole 4 at 0,0
hole 1.7 at -5.08,0
hole 1.7 at 5.08,0
hole 2.4 at 0,-4.5
hole 3.05 at -7,-11.9
hole 3.05 at -7,11.9
hole 4 at 8.24,-11.9
hole 4 at 8.24,11.9

## Footprint MX-2U-SMDRGB-ROTATED (pad centres in mm)
Keyboard switch package!
smd 1 x 0.75 bottom: B- 2.1,-5.225; G- -2.1,-5.225; LED+ 2.1,-3.775; R- -2.1,-3.775
drill 1.3 pad 2.54: MX1 -3.81,2.54; MX2 2.54,5.08
hole 4 at 0,0
hole 1.7 at -5.08,0
hole 1.7 at 5.08,0
hole 2.4 at 0,-4.5
hole 3.05 at 7,-11.9
hole 3.05 at 7,11.9
hole 4 at -8.24,-11.9
hole 4 at -8.24,11.9

## Footprint MX-4U-SMDRGB (pad centres in mm)
Keyboard switch package!
smd 1 x 0.75 bottom: B- 2.1,-5.225; G- -2.1,-5.225; LED+ 2.1,-3.775; R- -2.1,-3.775
drill 1.3 pad 2.54: MX1 -3.81,2.54; MX2 2.54,5.08
hole 4 at 0,0
hole 1.7 at -5.08,0
hole 1.7 at 5.08,0
hole 2.4 at 0,-4.5
hole 3.05 at -28.625,7
hole 3.05 at 28.625,7
hole 4 at -28.625,-8.24
hole 4 at 28.625,-8.24

## Footprint MX-4U-SMDRGB-FLIPPED (pad centres in mm)
Keyboard switch package!
smd 1 x 0.75 bottom: B- 2.1,-5.225; G- -2.1,-5.225; LED+ 2.1,-3.775; R- -2.1,-3.775
drill 1.3 pad 2.54: MX1 -3.81,2.54; MX2 2.54,5.08
hole 4 at 0,0
hole 1.7 at -5.08,0
hole 1.7 at 5.08,0
hole 2.4 at 0,-4.5
hole 3.05 at -28.625,-7
hole 3.05 at 28.625,-7
hole 4 at -28.625,8.24
hole 4 at 28.625,8.24

## Footprint MX-4U-SMDRGB-FLIPPED-ROTATED (pad centres in mm)
Keyboard switch package!
smd 1 x 0.75 bottom: B- 2.1,-5.225; G- -2.1,-5.225; LED+ 2.1,-3.775; R- -2.1,-3.775
drill 1.3 pad 2.54: MX1 -3.81,2.54; MX2 2.54,5.08
hole 4 at 0,0
hole 1.7 at -5.08,0
hole 1.7 at 5.08,0
hole 2.4 at 0,-4.5
hole 3.05 at -7,-28.625
hole 3.05 at -7,28.625
hole 4 at 8.24,-28.625
hole 4 at 8.24,28.625

## Footprint MX-4U-SMDRGB-ROTATED (pad centres in mm)
Keyboard switch package!
smd 1 x 0.75 bottom: B- 2.1,-5.225; G- -2.1,-5.225; LED+ 2.1,-3.775; R- -2.1,-3.775
drill 1.3 pad 2.54: MX1 -3.81,2.54; MX2 2.54,5.08
hole 4 at 0,0
hole 1.7 at -5.08,0
hole 1.7 at 5.08,0
hole 2.4 at 0,-4.5
hole 3.05 at 7,-28.625
hole 3.05 at 7,28.625
hole 4 at -8.24,-28.625
hole 4 at -8.24,28.625

## Footprint MX-6U-SMDRGB (pad centres in mm)
Keyboard switch package!
smd 1 x 0.75 bottom: B- 2.1,-5.225; G- -2.1,-5.225; LED+ 2.1,-3.775; R- -2.1,-3.775
drill 1.3 pad 2.54: MX1 -3.81,2.54; MX2 2.54,5.08
hole 4 at 0,0
hole 1.7 at -5.08,0
hole 1.7 at 5.08,0
hole 2.4 at 0,-4.5
hole 3.05 at -57.15,7
hole 3.05 at 38.1,7
hole 4 at -57.15,-8.24
hole 4 at 38.1,-8.24

## Footprint MX-6U-SMDRGB-FLIPPED (pad centres in mm)
Keyboard switch package!
smd 1 x 0.75 bottom: B- 2.1,-5.225; G- -2.1,-5.225; LED+ 2.1,-3.775; R- -2.1,-3.775
drill 1.3 pad 2.54: MX1 -3.81,2.54; MX2 2.54,5.08
hole 4 at 0,0
hole 1.7 at -5.08,0
hole 1.7 at 5.08,0
hole 2.4 at 0,-4.5
hole 3.05 at -57.15,-7
hole 3.05 at 38.1,-7
hole 4 at -57.15,8.24
hole 4 at 38.1,8.24

## Footprint MX-6U-SMDRGB-FLIPPED-ROTATED (pad centres in mm)
Keyboard switch package!
smd 1 x 0.75 bottom: B- 2.1,-5.225; G- -2.1,-5.225; LED+ 2.1,-3.775; R- -2.1,-3.775
drill 1.3 pad 2.54: MX1 -3.81,2.54; MX2 2.54,5.08
hole 4 at 0,0
hole 1.7 at -5.08,0
hole 1.7 at 5.08,0
hole 2.4 at 0,-4.5
hole 3.05 at -7,-57.15
hole 3.05 at -7,38.1
hole 4 at 8.24,-57.15
hole 4 at 8.24,38.1

## Footprint MX-6U-SMDRGB-ROTATED (pad centres in mm)
Keyboard switch package!
smd 1 x 0.75 bottom: B- 2.1,-5.225; G- -2.1,-5.225; LED+ 2.1,-3.775; R- -2.1,-3.775
drill 1.3 pad 2.54: MX1 -3.81,2.54; MX2 2.54,5.08
hole 4 at 0,0
hole 1.7 at -5.08,0
hole 1.7 at 5.08,0
hole 2.4 at 0,-4.5
hole 3.05 at 7,-57.15
hole 3.05 at 7,38.1
hole 4 at -8.24,-57.15
hole 4 at -8.24,38.1

## Footprint MX-6.25U-SMDRGB (pad centres in mm)
Keyboard switch package!
smd 1 x 0.75 bottom: B- 2.1,-5.225; G- -2.1,-5.225; LED+ 2.1,-3.775; R- -2.1,-3.775
drill 1.3 pad 2.54: MX1 -3.81,2.54; MX2 2.54,5.08
hole 4 at 0,0
hole 1.7 at -5.08,0
hole 1.7 at 5.08,0
hole 2.4 at 0,-4.5
hole 3.05 at -50,7
hole 3.05 at 50,7
hole 4 at -50,-8.24
hole 4 at 50,-8.24

## Footprint MX-6.25U-SMDRGB-FLIPPED (pad centres in mm)
Keyboard switch package!
smd 1 x 0.75 bottom: B- 2.1,-5.225; G- -2.1,-5.225; LED+ 2.1,-3.775; R- -2.1,-3.775
drill 1.3 pad 2.54: MX1 -3.81,2.54; MX2 2.54,5.08
hole 4 at 0,0
hole 1.7 at -5.08,0
hole 1.7 at 5.08,0
hole 2.4 at 0,-4.5
hole 3.05 at -50,-7
hole 3.05 at 50,-7
hole 4 at -50,8.24
hole 4 at 50,8.24

## Footprint MX-6.25U-SMDRGB-FLIPPED-ROTATED (pad centres in mm)
Keyboard switch package!
smd 1 x 0.75 bottom: B- 2.1,-5.225; G- -2.1,-5.225; LED+ 2.1,-3.775; R- -2.1,-3.775
drill 1.3 pad 2.54: MX1 -3.81,2.54; MX2 2.54,5.08
hole 4 at 0,0
hole 1.7 at -5.08,0
hole 1.7 at 5.08,0
hole 2.4 at 0,-4.5
hole 3.05 at -7,-50
hole 3.05 at -7,50
hole 4 at 8.24,-50
hole 4 at 8.24,50

## Footprint MX-6.25U-SMDRGB-ROTATED (pad centres in mm)
Keyboard switch package!
smd 1 x 0.75 bottom: B- 2.1,-5.225; G- -2.1,-5.225; LED+ 2.1,-3.775; R- -2.1,-3.775
drill 1.3 pad 2.54: MX1 -3.81,2.54; MX2 2.54,5.08
hole 4 at 0,0
hole 1.7 at -5.08,0
hole 1.7 at 5.08,0
hole 2.4 at 0,-4.5
hole 3.05 at 7,-50
hole 3.05 at 7,50
hole 4 at -8.24,-50
hole 4 at -8.24,50

## Footprint MX-6.5U-SMDRGB (pad centres in mm)
Keyboard switch package!
smd 1 x 0.75 bottom: B- 2.1,-5.225; G- -2.1,-5.225; LED+ 2.1,-3.775; R- -2.1,-3.775
drill 1.3 pad 2.54: MX1 -3.81,2.54; MX2 2.54,5.08
hole 4 at 0,0
hole 1.7 at -5.08,0
hole 1.7 at 5.08,0
hole 2.4 at 0,-4.5
hole 3.05 at -52.5,7
hole 3.05 at 52.5,7
hole 4 at -52.5,-8.24
hole 4 at 52.5,-8.24

## Footprint MX-6.5U-SMDRGB-FLIPPED (pad centres in mm)
Keyboard switch package!
smd 1 x 0.75 bottom: B- 2.1,-5.225; G- -2.1,-5.225; LED+ 2.1,-3.775; R- -2.1,-3.775
drill 1.3 pad 2.54: MX1 -3.81,2.54; MX2 2.54,5.08
hole 4 at 0,0
hole 1.7 at -5.08,0
hole 1.7 at 5.08,0
hole 2.4 at 0,-4.5
hole 3.05 at -52.5,-7
hole 3.05 at 52.5,-7
hole 4 at -52.5,8.24
hole 4 at 52.5,8.24

## Footprint MX-6.5U-SMDRGB-FLIPPED-ROTATED (pad centres in mm)
Keyboard switch package!
smd 1 x 0.75 bottom: B- 2.1,-5.225; G- -2.1,-5.225; LED+ 2.1,-3.775; R- -2.1,-3.775
drill 1.3 pad 2.54: MX1 -3.81,2.54; MX2 2.54,5.08
hole 4 at 0,0
hole 1.7 at -5.08,0
hole 1.7 at 5.08,0
hole 2.4 at 0,-4.5
hole 3.05 at -7,-52.5
hole 3.05 at -7,52.5
hole 4 at 8.24,-52.5
hole 4 at 8.24,52.5

## Footprint MX-6.5U-SMDRGB-ROTATED (pad centres in mm)
Keyboard switch package!
smd 1 x 0.75 bottom: B- 2.1,-5.225; G- -2.1,-5.225; LED+ 2.1,-3.775; R- -2.1,-3.775
drill 1.3 pad 2.54: MX1 -3.81,2.54; MX2 2.54,5.08
hole 4 at 0,0
hole 1.7 at -5.08,0
hole 1.7 at 5.08,0
hole 2.4 at 0,-4.5
hole 3.05 at 7,-52.5
hole 3.05 at 7,52.5
hole 4 at -8.24,-52.5
hole 4 at -8.24,52.5

## Footprint MX-7U-SMDRGB (pad centres in mm)
Keyboard switch package!
smd 1 x 0.75 bottom: B- 2.1,-5.225; G- -2.1,-5.225; LED+ 2.1,-3.775; R- -2.1,-3.775
drill 1.3 pad 2.54: MX1 -3.81,2.54; MX2 2.54,5.08
hole 4 at 0,0
hole 1.7 at -5.08,0
hole 1.7 at 5.08,0
hole 2.4 at 0,-4.5
hole 3.05 at -57.15,7
hole 3.05 at 57.15,7
hole 4 at -57.15,-8.24
hole 4 at 57.15,-8.24

## Footprint MX-7U-SMDRGB-FLIPPED (pad centres in mm)
Keyboard switch package!
smd 1 x 0.75 bottom: B- 2.1,-5.225; G- -2.1,-5.225; LED+ 2.1,-3.775; R- -2.1,-3.775
drill 1.3 pad 2.54: MX1 -3.81,2.54; MX2 2.54,5.08
hole 4 at 0,0
hole 1.7 at -5.08,0
hole 1.7 at 5.08,0
hole 2.4 at 0,-4.5
hole 3.05 at -57.15,-7
hole 3.05 at 57.15,-7
hole 4 at -57.15,8.24
hole 4 at 57.15,8.24

## Footprint MX-7U-SMDRGB-FLIPPED-ROTATED (pad centres in mm)
Keyboard switch package!
smd 1 x 0.75 bottom: B- 2.1,-5.225; G- -2.1,-5.225; LED+ 2.1,-3.775; R- -2.1,-3.775
drill 1.3 pad 2.54: MX1 -3.81,2.54; MX2 2.54,5.08
hole 4 at 0,0
hole 1.7 at -5.08,0
hole 1.7 at 5.08,0
hole 2.4 at 0,-4.5
hole 3.05 at -7,-57.15
hole 3.05 at -7,57.15
hole 4 at 8.24,-57.15
hole 4 at 8.24,57.15

## Footprint MX-7U-SMDRGB-ROTATED (pad centres in mm)
Keyboard switch package!
smd 1 x 0.75 bottom: B- 2.1,-5.225; G- -2.1,-5.225; LED+ 2.1,-3.775; R- -2.1,-3.775
drill 1.3 pad 2.54: MX1 -3.81,2.54; MX2 2.54,5.08
hole 4 at 0,0
hole 1.7 at -5.08,0
hole 1.7 at 5.08,0
hole 2.4 at 0,-4.5
hole 3.05 at 7,-57.15
hole 3.05 at 7,57.15
hole 4 at -8.24,-57.15
hole 4 at -8.24,57.15

## Footprint MXHS-REVERSED-6U-SMDRGB (pad centres in mm)
Keyboard switch package!
smd 1 x 0.75 bottom: B- 2.1,-5.225; G- -2.1,-5.225; LED+ 2.1,-3.775; R- -2.1,-3.775
smd 2.55 x 2.5: MX1 7.36,2.54; MX2 -6.09,5.08
hole 4 at 0,0
hole 3 at 3.81,2.54
hole 3 at -2.54,5.08
hole 2.4 at 0,-4.5
hole 3.05 at -38.1,7
hole 3.05 at 57.15,7
hole 4 at -38.1,-8.24
hole 4 at 57.15,-8.24

## Footprint MXHS-REVERSED-6U-SMDRGB-FLIPPED (pad centres in mm)
Keyboard switch package!
smd 1 x 0.75 bottom: B- 2.1,-5.225; G- -2.1,-5.225; LED+ 2.1,-3.775; R- -2.1,-3.775
smd 2.55 x 2.5: MX1 7.36,2.54; MX2 -6.09,5.08
hole 4 at 0,0
hole 3 at 3.81,2.54
hole 3 at -2.54,5.08
hole 2.4 at 0,-4.5
hole 3.05 at -38.1,-7
hole 3.05 at 57.15,-7
hole 4 at -38.1,8.24
hole 4 at 57.15,8.24

## Footprint MXHS-REVERSED-6U-SMDRGB-FLIPPED-ROTATED (pad centres in mm)
Keyboard switch package!
smd 1 x 0.75 bottom: B- 2.1,-5.225; G- -2.1,-5.225; LED+ 2.1,-3.775; R- -2.1,-3.775
smd 2.55 x 2.5: MX1 7.36,2.54; MX2 -6.09,5.08
hole 4 at 0,0
hole 3 at 3.81,2.54
hole 3 at -2.54,5.08
hole 2.4 at 0,-4.5
hole 3.05 at -7,-38.1
hole 3.05 at -7,57.15
hole 4 at 8.24,-38.1
hole 4 at 8.24,57.15

## Footprint MXHS-REVERSED-6U-SMDRGB-ROTATED (pad centres in mm)
Keyboard switch package!
smd 1 x 0.75 bottom: B- 2.1,-5.225; G- -2.1,-5.225; LED+ 2.1,-3.775; R- -2.1,-3.775
smd 2.55 x 2.5: MX1 7.36,2.54; MX2 -6.09,5.08
hole 4 at 0,0
hole 3 at 3.81,2.54
hole 3 at -2.54,5.08
hole 2.4 at 0,-4.5
hole 3.05 at 7,-38.1
hole 3.05 at 7,57.15
hole 4 at -8.24,-38.1
hole 4 at -8.24,57.15

## Footprint MXHS-1U-SMDRGB (pad centres in mm)
Keyboard switch package!
smd 1 x 0.75 bottom: B- 2.1,-5.225; G- -2.1,-5.225; LED+ 2.1,-3.775; R- -2.1,-3.775
smd 2.55 x 2.5: MX1 7.36,2.54; MX2 -6.09,5.08
hole 4 at 0,0
hole 3 at 3.81,2.54
hole 3 at -2.54,5.08
hole 2.4 at 0,-4.5

## Footprint MXHS-2U-SMDRGB (pad centres in mm)
Keyboard switch package!
smd 1 x 0.75 bottom: B- 2.1,-5.225; G- -2.1,-5.225; LED+ 2.1,-3.775; R- -2.1,-3.775
smd 2.55 x 2.5: MX1 7.36,2.54; MX2 -6.09,5.08
hole 4 at 0,0
hole 3 at 3.81,2.54
hole 3 at -2.54,5.08
hole 2.4 at 0,-4.5
hole 3.05 at -11.9,7
hole 3.05 at 11.9,7
hole 4 at -11.9,-8.24
hole 4 at 11.9,-8.24

## Footprint MXHS-2U-SMDRGB-FLIPPED (pad centres in mm)
Keyboard switch package!
smd 1 x 0.75 bottom: B- 2.1,-5.225; G- -2.1,-5.225; LED+ 2.1,-3.775; R- -2.1,-3.775
smd 2.55 x 2.5: MX1 7.36,2.54; MX2 -6.09,5.08
hole 4 at 0,0
hole 3 at 3.81,2.54
hole 3 at -2.54,5.08
hole 2.4 at 0,-4.5
hole 3.05 at -11.9,-7
hole 3.05 at 11.9,-7
hole 4 at -11.9,8.24
hole 4 at 11.9,8.24

## Footprint MXHS-2U-SMDRGB-FLIPPED-ROTATED (pad centres in mm)
Keyboard switch package!
smd 1 x 0.75 bottom: B- 2.1,-5.225; G- -2.1,-5.225; LED+ 2.1,-3.775; R- -2.1,-3.775
smd 2.55 x 2.5: MX1 7.36,2.54; MX2 -6.09,5.08
hole 4 at 0,0
hole 3 at 3.81,2.54
hole 3 at -2.54,5.08
hole 2.4 at 0,-4.5
hole 3.05 at -7,-11.9
hole 3.05 at -7,11.9
hole 4 at 8.24,-11.9
hole 4 at 8.24,11.9

## Footprint MXHS-2U-SMDRGB-ROTATED (pad centres in mm)
Keyboard switch package!
smd 1 x 0.75 bottom: B- 2.1,-5.225; G- -2.1,-5.225; LED+ 2.1,-3.775; R- -2.1,-3.775
smd 2.55 x 2.5: MX1 7.36,2.54; MX2 -6.09,5.08
hole 4 at 0,0
hole 3 at 3.81,2.54
hole 3 at -2.54,5.08
hole 2.4 at 0,-4.5
hole 3.05 at 7,-11.9
hole 3.05 at 7,11.9
hole 4 at -8.24,-11.9
hole 4 at -8.24,11.9

## Footprint MXHS-4U-SMDRGB (pad centres in mm)
Keyboard switch package!
smd 1 x 0.75 bottom: B- 2.1,-5.225; G- -2.1,-5.225; LED+ 2.1,-3.775; R- -2.1,-3.775
smd 2.55 x 2.5: MX1 7.36,2.54; MX2 -6.09,5.08
hole 4 at 0,0
hole 3 at 3.81,2.54
hole 3 at -2.54,5.08
hole 2.4 at 0,-4.5
hole 3.05 at -28.625,7
hole 3.05 at 28.625,7
hole 4 at -28.625,-8.24
hole 4 at 28.625,-8.24

## Footprint MXHS-4U-SMDRGB-FLIPPED (pad centres in mm)
Keyboard switch package!
smd 1 x 0.75 bottom: B- 2.1,-5.225; G- -2.1,-5.225; LED+ 2.1,-3.775; R- -2.1,-3.775
smd 2.55 x 2.5: MX1 7.36,2.54; MX2 -6.09,5.08
hole 4 at 0,0
hole 3 at 3.81,2.54
hole 3 at -2.54,5.08
hole 2.4 at 0,-4.5
hole 3.05 at -28.625,-7
hole 3.05 at 28.625,-7
hole 4 at -28.625,8.24
hole 4 at 28.625,8.24

## Footprint MXHS-4U-SMDRGB-FLIPPED-ROTATED (pad centres in mm)
Keyboard switch package!
smd 1 x 0.75 bottom: B- 2.1,-5.225; G- -2.1,-5.225; LED+ 2.1,-3.775; R- -2.1,-3.775
smd 2.55 x 2.5: MX1 7.36,2.54; MX2 -6.09,5.08
hole 4 at 0,0
hole 3 at 3.81,2.54
hole 3 at -2.54,5.08
hole 2.4 at 0,-4.5
hole 3.05 at -7,-28.625
hole 3.05 at -7,28.625
hole 4 at 8.24,-28.625
hole 4 at 8.24,28.625

## Footprint MXHS-4U-SMDRGB-ROTATED (pad centres in mm)
Keyboard switch package!
smd 1 x 0.75 bottom: B- 2.1,-5.225; G- -2.1,-5.225; LED+ 2.1,-3.775; R- -2.1,-3.775
smd 2.55 x 2.5: MX1 7.36,2.54; MX2 -6.09,5.08
hole 4 at 0,0
hole 3 at 3.81,2.54
hole 3 at -2.54,5.08
hole 2.4 at 0,-4.5
hole 3.05 at 7,-28.625
hole 3.05 at 7,28.625
hole 4 at -8.24,-28.625
hole 4 at -8.24,28.625

## Footprint MXHS-6U-SMDRGB (pad centres in mm)
Keyboard switch package!
smd 1 x 0.75 bottom: B- 2.1,-5.225; G- -2.1,-5.225; LED+ 2.1,-3.775; R- -2.1,-3.775
smd 2.55 x 2.5: MX1 7.36,2.54; MX2 -6.09,5.08
hole 4 at 0,0
hole 3 at 3.81,2.54
hole 3 at -2.54,5.08
hole 2.4 at 0,-4.5
hole 3.05 at -57.15,7
hole 3.05 at 38.1,7
hole 4 at -57.15,-8.24
hole 4 at 38.1,-8.24

## Footprint MXHS-6U-SMDRGB-FLIPPED (pad centres in mm)
Keyboard switch package!
smd 1 x 0.75 bottom: B- 2.1,-5.225; G- -2.1,-5.225; LED+ 2.1,-3.775; R- -2.1,-3.775
smd 2.55 x 2.5: MX1 7.36,2.54; MX2 -6.09,5.08
hole 4 at 0,0
hole 3 at 3.81,2.54
hole 3 at -2.54,5.08
hole 2.4 at 0,-4.5
hole 3.05 at -57.15,-7
hole 3.05 at 38.1,-7
hole 4 at -57.15,8.24
hole 4 at 38.1,8.24

## Footprint MXHS-6U-SMDRGB-FLIPPED-ROTATED (pad centres in mm)
Keyboard switch package!
smd 1 x 0.75 bottom: B- 2.1,-5.225; G- -2.1,-5.225; LED+ 2.1,-3.775; R- -2.1,-3.775
smd 2.55 x 2.5: MX1 7.36,2.54; MX2 -6.09,5.08
hole 4 at 0,0
hole 3 at 3.81,2.54
hole 3 at -2.54,5.08
hole 2.4 at 0,-4.5
hole 3.05 at -7,-57.15
hole 3.05 at -7,38.1
hole 4 at 8.24,-57.15
hole 4 at 8.24,38.1

## Footprint MXHS-6U-SMDRGB-ROTATED (pad centres in mm)
Keyboard switch package!
smd 1 x 0.75 bottom: B- 2.1,-5.225; G- -2.1,-5.225; LED+ 2.1,-3.775; R- -2.1,-3.775
smd 2.55 x 2.5: MX1 7.36,2.54; MX2 -6.09,5.08
hole 4 at 0,0
hole 3 at 3.81,2.54
hole 3 at -2.54,5.08
hole 2.4 at 0,-4.5
hole 3.05 at 7,-57.15
hole 3.05 at 7,38.1
hole 4 at -8.24,-57.15
hole 4 at -8.24,38.1

## Footprint MXHS-6.25U-SMDRGB (pad centres in mm)
Keyboard switch package!
smd 1 x 0.75 bottom: B- 2.1,-5.225; G- -2.1,-5.225; LED+ 2.1,-3.775; R- -2.1,-3.775
smd 2.55 x 2.5: MX1 7.36,2.54; MX2 -6.09,5.08
hole 4 at 0,0
hole 3 at 3.81,2.54
hole 3 at -2.54,5.08
hole 2.4 at 0,-4.5
hole 3.05 at -50,7
hole 3.05 at 50,7
hole 4 at -50,-8.24
hole 4 at 50,-8.24

## Footprint MXHS-6.25U-SMDRGB-FLIPPED (pad centres in mm)
Keyboard switch package!
smd 1 x 0.75 bottom: B- 2.1,-5.225; G- -2.1,-5.225; LED+ 2.1,-3.775; R- -2.1,-3.775
smd 2.55 x 2.5: MX1 7.36,2.54; MX2 -6.09,5.08
hole 4 at 0,0
hole 3 at 3.81,2.54
hole 3 at -2.54,5.08
hole 2.4 at 0,-4.5
hole 3.05 at -50,-7
hole 3.05 at 50,-7
hole 4 at -50,8.24
hole 4 at 50,8.24

## Footprint MXHS-6.25U-SMDRGB-FLIPPED-ROTATED (pad centres in mm)
Keyboard switch package!
smd 1 x 0.75 bottom: B- 2.1,-5.225; G- -2.1,-5.225; LED+ 2.1,-3.775; R- -2.1,-3.775
smd 2.55 x 2.5: MX1 7.36,2.54; MX2 -6.09,5.08
hole 4 at 0,0
hole 3 at 3.81,2.54
hole 3 at -2.54,5.08
hole 2.4 at 0,-4.5
hole 3.05 at -7,-50
hole 3.05 at -7,50
hole 4 at 8.24,-50
hole 4 at 8.24,50

## Footprint MXHS-6.25U-SMDRGB-ROTATED (pad centres in mm)
Keyboard switch package!
smd 1 x 0.75 bottom: B- 2.1,-5.225; G- -2.1,-5.225; LED+ 2.1,-3.775; R- -2.1,-3.775
smd 2.55 x 2.5: MX1 7.36,2.54; MX2 -6.09,5.08
hole 4 at 0,0
hole 3 at 3.81,2.54
hole 3 at -2.54,5.08
hole 2.4 at 0,-4.5
hole 3.05 at 7,-50
hole 3.05 at 7,50
hole 4 at -8.24,-50
hole 4 at -8.24,50

## Footprint MXHS-6.5U-SMDRGB (pad centres in mm)
Keyboard switch package!
smd 1 x 0.75 bottom: B- 2.1,-5.225; G- -2.1,-5.225; LED+ 2.1,-3.775; R- -2.1,-3.775
smd 2.55 x 2.5: MX1 7.36,2.54; MX2 -6.09,5.08
hole 4 at 0,0
hole 3 at 3.81,2.54
hole 3 at -2.54,5.08
hole 2.4 at 0,-4.5
hole 3.05 at -52.5,7
hole 3.05 at 52.5,7
hole 4 at -52.5,-8.24
hole 4 at 52.5,-8.24

## Footprint MXHS-6.5U-SMDRGB-FLIPPED (pad centres in mm)
Keyboard switch package!
smd 1 x 0.75 bottom: B- 2.1,-5.225; G- -2.1,-5.225; LED+ 2.1,-3.775; R- -2.1,-3.775
smd 2.55 x 2.5: MX1 7.36,2.54; MX2 -6.09,5.08
hole 4 at 0,0
hole 3 at 3.81,2.54
hole 3 at -2.54,5.08
hole 2.4 at 0,-4.5
hole 3.05 at -52.5,-7
hole 3.05 at 52.5,-7
hole 4 at -52.5,8.24
hole 4 at 52.5,8.24

## Footprint MXHS-6.5U-SMDRGB-FLIPPED-ROTATED (pad centres in mm)
Keyboard switch package!
smd 1 x 0.75 bottom: B- 2.1,-5.225; G- -2.1,-5.225; LED+ 2.1,-3.775; R- -2.1,-3.775
smd 2.55 x 2.5: MX1 7.36,2.54; MX2 -6.09,5.08
hole 4 at 0,0
hole 3 at 3.81,2.54
hole 3 at -2.54,5.08
hole 2.4 at 0,-4.5
hole 3.05 at -7,-52.5
hole 3.05 at -7,52.5
hole 4 at 8.24,-52.5
hole 4 at 8.24,52.5

## Footprint MXHS-6.5U-SMDRGB-ROTATED (pad centres in mm)
Keyboard switch package!
smd 1 x 0.75 bottom: B- 2.1,-5.225; G- -2.1,-5.225; LED+ 2.1,-3.775; R- -2.1,-3.775
smd 2.55 x 2.5: MX1 7.36,2.54; MX2 -6.09,5.08
hole 4 at 0,0
hole 3 at 3.81,2.54
hole 3 at -2.54,5.08
hole 2.4 at 0,-4.5
hole 3.05 at 7,-52.5
hole 3.05 at 7,52.5
hole 4 at -8.24,-52.5
hole 4 at -8.24,52.5

## Footprint MXHS-7U-SMDRGB (pad centres in mm)
Keyboard switch package!
smd 1 x 0.75 bottom: B- 2.1,-5.225; G- -2.1,-5.225; LED+ 2.1,-3.775; R- -2.1,-3.775
smd 2.55 x 2.5: MX1 7.36,2.54; MX2 -6.09,5.08
hole 4 at 0,0
hole 3 at 3.81,2.54
hole 3 at -2.54,5.08
hole 2.4 at 0,-4.5
hole 3.05 at -57.15,7
hole 3.05 at 57.15,7
hole 4 at -57.15,-8.24
hole 4 at 57.15,-8.24

## Footprint MXHS-7U-SMDRGB-FLIPPED (pad centres in mm)
Keyboard switch package!
smd 1 x 0.75 bottom: B- 2.1,-5.225; G- -2.1,-5.225; LED+ 2.1,-3.775; R- -2.1,-3.775
smd 2.55 x 2.5: MX1 7.36,2.54; MX2 -6.09,5.08
hole 4 at 0,0
hole 3 at 3.81,2.54
hole 3 at -2.54,5.08
hole 2.4 at 0,-4.5
hole 3.05 at -57.15,-7
hole 3.05 at 57.15,-7
hole 4 at -57.15,8.24
hole 4 at 57.15,8.24

## Footprint MXHS-7U-SMDRGB-FLIPPED-ROTATED (pad centres in mm)
Keyboard switch package!
smd 1 x 0.75 bottom: B- 2.1,-5.225; G- -2.1,-5.225; LED+ 2.1,-3.775; R- -2.1,-3.775
smd 2.55 x 2.5: MX1 7.36,2.54; MX2 -6.09,5.08
hole 4 at 0,0
hole 3 at 3.81,2.54
hole 3 at -2.54,5.08
hole 2.4 at 0,-4.5
hole 3.05 at -7,-57.15
hole 3.05 at -7,57.15
hole 4 at 8.24,-57.15
hole 4 at 8.24,57.15

## Footprint MXHS-7U-SMDRGB-ROTATED (pad centres in mm)
Keyboard switch package!
smd 1 x 0.75 bottom: B- 2.1,-5.225; G- -2.1,-5.225; LED+ 2.1,-3.775; R- -2.1,-3.775
smd 2.55 x 2.5: MX1 7.36,2.54; MX2 -6.09,5.08
hole 4 at 0,0
hole 3 at 3.81,2.54
hole 3 at -2.54,5.08
hole 2.4 at 0,-4.5
hole 3.05 at 7,-57.15
hole 3.05 at 7,57.15
hole 4 at -8.24,-57.15
hole 4 at -8.24,57.15

## Footprint MXHSPCB-REVERSED-6U-SMDRGB (pad centres in mm)
Keyboard switch package!
smd 1 x 0.75 bottom: B- 2.1,-5.225; G- -2.1,-5.225; LED+ 2.1,-3.775; R- -2.1,-3.775
smd 2.55 x 2.5: MX1 7.36,2.54; MX2 -6.09,5.08
hole 4 at 0,0
hole 1.7 at 5.08,0
hole 1.7 at -5.08,0
hole 3 at 3.81,2.54
hole 3 at -2.54,5.08
hole 2.4 at 0,-4.5
hole 3.05 at -38.1,7
hole 3.05 at 57.15,7
hole 4 at -38.1,-8.24
hole 4 at 57.15,-8.24

## Footprint MXHSPCB-REVERSED-6U-SMDRGB-FLIPPED (pad centres in mm)
Keyboard switch package!
smd 1 x 0.75 bottom: B- 2.1,-5.225; G- -2.1,-5.225; LED+ 2.1,-3.775; R- -2.1,-3.775
smd 2.55 x 2.5: MX1 7.36,2.54; MX2 -6.09,5.08
hole 4 at 0,0
hole 1.7 at 5.08,0
hole 1.7 at -5.08,0
hole 3 at 3.81,2.54
hole 3 at -2.54,5.08
hole 2.4 at 0,-4.5
hole 3.05 at -38.1,-7
hole 3.05 at 57.15,-7
hole 4 at -38.1,8.24
hole 4 at 57.15,8.24

## Footprint MXHSPCB-REVERSED-6U-SMDRGB-FLIPPED-ROTATED (pad centres in mm)
Keyboard switch package!
smd 1 x 0.75 bottom: B- 2.1,-5.225; G- -2.1,-5.225; LED+ 2.1,-3.775; R- -2.1,-3.775
smd 2.55 x 2.5: MX1 7.36,2.54; MX2 -6.09,5.08
hole 4 at 0,0
hole 1.7 at 5.08,0
hole 1.7 at -5.08,0
hole 3 at 3.81,2.54
hole 3 at -2.54,5.08
hole 2.4 at 0,-4.5
hole 3.05 at -7,-38.1
hole 3.05 at -7,57.15
hole 4 at 8.24,-38.1
hole 4 at 8.24,57.15

## Footprint MXHSPCB-REVERSED-6U-SMDRGB-ROTATED (pad centres in mm)
Keyboard switch package!
smd 1 x 0.75 bottom: B- 2.1,-5.225; G- -2.1,-5.225; LED+ 2.1,-3.775; R- -2.1,-3.775
smd 2.55 x 2.5: MX1 7.36,2.54; MX2 -6.09,5.08
hole 4 at 0,0
hole 1.7 at 5.08,0
hole 1.7 at -5.08,0
hole 3 at 3.81,2.54
hole 3 at -2.54,5.08
hole 2.4 at 0,-4.5
hole 3.05 at 7,-38.1
hole 3.05 at 7,57.15
hole 4 at -8.24,-38.1
hole 4 at -8.24,57.15

## Footprint MXHSPCB-1U-SMDRGB (pad centres in mm)
Keyboard switch package!
smd 1 x 0.75 bottom: B- 2.1,-5.225; G- -2.1,-5.225; LED+ 2.1,-3.775; R- -2.1,-3.775
smd 2.55 x 2.5: MX1 7.36,2.54; MX2 -6.09,5.08
hole 4 at 0,0
hole 1.7 at 5.08,0
hole 1.7 at -5.08,0
hole 3 at 3.81,2.54
hole 3 at -2.54,5.08
hole 2.4 at 0,-4.5

## Footprint MXHSPCB-2U-SMDRGB (pad centres in mm)
Keyboard switch package!
smd 1 x 0.75 bottom: B- 2.1,-5.225; G- -2.1,-5.225; LED+ 2.1,-3.775; R- -2.1,-3.775
smd 2.55 x 2.5: MX1 7.36,2.54; MX2 -6.09,5.08
hole 4 at 0,0
hole 1.7 at 5.08,0
hole 1.7 at -5.08,0
hole 3 at 3.81,2.54
hole 3 at -2.54,5.08
hole 2.4 at 0,-4.5
hole 3.05 at -11.9,7
hole 3.05 at 11.9,7
hole 4 at -11.9,-8.24
hole 4 at 11.9,-8.24

## Footprint MXHSPCB-2U-SMDRGB-FLIPPED (pad centres in mm)
Keyboard switch package!
smd 1 x 0.75 bottom: B- 2.1,-5.225; G- -2.1,-5.225; LED+ 2.1,-3.775; R- -2.1,-3.775
smd 2.55 x 2.5: MX1 7.36,2.54; MX2 -6.09,5.08
hole 4 at 0,0
hole 1.7 at 5.08,0
hole 1.7 at -5.08,0
hole 3 at 3.81,2.54
hole 3 at -2.54,5.08
hole 2.4 at 0,-4.5
hole 3.05 at -11.9,-7
hole 3.05 at 11.9,-7
hole 4 at -11.9,8.24
hole 4 at 11.9,8.24

## Footprint MXHSPCB-2U-SMDRGB-FLIPPED-ROTATED (pad centres in mm)
Keyboard switch package!
smd 1 x 0.75 bottom: B- 2.1,-5.225; G- -2.1,-5.225; LED+ 2.1,-3.775; R- -2.1,-3.775
smd 2.55 x 2.5: MX1 7.36,2.54; MX2 -6.09,5.08
hole 4 at 0,0
hole 1.7 at 5.08,0
hole 1.7 at -5.08,0
hole 3 at 3.81,2.54
hole 3 at -2.54,5.08
hole 2.4 at 0,-4.5
hole 3.05 at -7,-11.9
hole 3.05 at -7,11.9
hole 4 at 8.24,-11.9
hole 4 at 8.24,11.9

## Footprint MXHSPCB-2U-SMDRGB-ROTATED (pad centres in mm)
Keyboard switch package!
smd 1 x 0.75 bottom: B- 2.1,-5.225; G- -2.1,-5.225; LED+ 2.1,-3.775; R- -2.1,-3.775
smd 2.55 x 2.5: MX1 7.36,2.54; MX2 -6.09,5.08
hole 4 at 0,0
hole 1.7 at 5.08,0
hole 1.7 at -5.08,0
hole 3 at 3.81,2.54
hole 3 at -2.54,5.08
hole 2.4 at 0,-4.5
hole 3.05 at 7,-11.9
hole 3.05 at 7,11.9
hole 4 at -8.24,-11.9
hole 4 at -8.24,11.9

## Footprint MXHSPCB-4U-SMDRGB (pad centres in mm)
Keyboard switch package!
smd 1 x 0.75 bottom: B- 2.1,-5.225; G- -2.1,-5.225; LED+ 2.1,-3.775; R- -2.1,-3.775
smd 2.55 x 2.5: MX1 7.36,2.54; MX2 -6.09,5.08
hole 4 at 0,0
hole 1.7 at 5.08,0
hole 1.7 at -5.08,0
hole 3 at 3.81,2.54
hole 3 at -2.54,5.08
hole 2.4 at 0,-4.5
hole 3.05 at -28.625,7
hole 3.05 at 28.625,7
hole 4 at -28.625,-8.24
hole 4 at 28.625,-8.24

## Footprint MXHSPCB-4U-SMDRGB-FLIPPED (pad centres in mm)
Keyboard switch package!
smd 1 x 0.75 bottom: B- 2.1,-5.225; G- -2.1,-5.225; LED+ 2.1,-3.775; R- -2.1,-3.775
smd 2.55 x 2.5: MX1 7.36,2.54; MX2 -6.09,5.08
hole 4 at 0,0
hole 1.7 at 5.08,0
hole 1.7 at -5.08,0
hole 3 at 3.81,2.54
hole 3 at -2.54,5.08
hole 2.4 at 0,-4.5
hole 3.05 at -28.625,-7
hole 3.05 at 28.625,-7
hole 4 at -28.625,8.24
hole 4 at 28.625,8.24

## Footprint MXHSPCB-4U-SMDRGB-FLIPPED-ROTATED (pad centres in mm)
Keyboard switch package!
smd 1 x 0.75 bottom: B- 2.1,-5.225; G- -2.1,-5.225; LED+ 2.1,-3.775; R- -2.1,-3.775
smd 2.55 x 2.5: MX1 7.36,2.54; MX2 -6.09,5.08
hole 4 at 0,0
hole 1.7 at 5.08,0
hole 1.7 at -5.08,0
hole 3 at 3.81,2.54
hole 3 at -2.54,5.08
hole 2.4 at 0,-4.5
hole 3.05 at -7,-28.625
hole 3.05 at -7,28.625
hole 4 at 8.24,-28.625
hole 4 at 8.24,28.625

## Footprint MXHSPCB-4U-SMDRGB-ROTATED (pad centres in mm)
Keyboard switch package!
smd 1 x 0.75 bottom: B- 2.1,-5.225; G- -2.1,-5.225; LED+ 2.1,-3.775; R- -2.1,-3.775
smd 2.55 x 2.5: MX1 7.36,2.54; MX2 -6.09,5.08
hole 4 at 0,0
hole 1.7 at 5.08,0
hole 1.7 at -5.08,0
hole 3 at 3.81,2.54
hole 3 at -2.54,5.08
hole 2.4 at 0,-4.5
hole 3.05 at 7,-28.625
hole 3.05 at 7,28.625
hole 4 at -8.24,-28.625
hole 4 at -8.24,28.625

## Footprint MXHSPCB-6U-SMDRGB (pad centres in mm)
Keyboard switch package!
smd 1 x 0.75 bottom: B- 2.1,-5.225; G- -2.1,-5.225; LED+ 2.1,-3.775; R- -2.1,-3.775
smd 2.55 x 2.5: MX1 7.36,2.54; MX2 -6.09,5.08
hole 4 at 0,0
hole 1.7 at 5.08,0
hole 1.7 at -5.08,0
hole 3 at 3.81,2.54
hole 3 at -2.54,5.08
hole 2.4 at 0,-4.5
hole 3.05 at -57.15,7
hole 3.05 at 38.1,7
hole 4 at -57.15,-8.24
hole 4 at 38.1,-8.24

## Footprint MXHSPCB-6U-SMDRGB-FLIPPED (pad centres in mm)
Keyboard switch package!
smd 1 x 0.75 bottom: B- 2.1,-5.225; G- -2.1,-5.225; LED+ 2.1,-3.775; R- -2.1,-3.775
smd 2.55 x 2.5: MX1 7.36,2.54; MX2 -6.09,5.08
hole 4 at 0,0
hole 1.7 at 5.08,0
hole 1.7 at -5.08,0
hole 3 at 3.81,2.54
hole 3 at -2.54,5.08
hole 2.4 at 0,-4.5
hole 3.05 at -57.15,-7
hole 3.05 at 38.1,-7
hole 4 at -57.15,8.24
hole 4 at 38.1,8.24

## Footprint MXHSPCB-6U-SMDRGB-FLIPPED-ROTATED (pad centres in mm)
Keyboard switch package!
smd 1 x 0.75 bottom: B- 2.1,-5.225; G- -2.1,-5.225; LED+ 2.1,-3.775; R- -2.1,-3.775
smd 2.55 x 2.5: MX1 7.36,2.54; MX2 -6.09,5.08
hole 4 at 0,0
hole 1.7 at 5.08,0
hole 1.7 at -5.08,0
hole 3 at 3.81,2.54
hole 3 at -2.54,5.08
hole 2.4 at 0,-4.5
hole 3.05 at -7,-57.15
hole 3.05 at -7,38.1
hole 4 at 8.24,-57.15
hole 4 at 8.24,38.1

## Footprint MXHSPCB-6U-SMDRGB-ROTATED (pad centres in mm)
Keyboard switch package!
smd 1 x 0.75 bottom: B- 2.1,-5.225; G- -2.1,-5.225; LED+ 2.1,-3.775; R- -2.1,-3.775
smd 2.55 x 2.5: MX1 7.36,2.54; MX2 -6.09,5.08
hole 4 at 0,0
hole 1.7 at 5.08,0
hole 1.7 at -5.08,0
hole 3 at 3.81,2.54
hole 3 at -2.54,5.08
hole 2.4 at 0,-4.5
hole 3.05 at 7,-57.15
hole 3.05 at 7,38.1
hole 4 at -8.24,-57.15
hole 4 at -8.24,38.1

## Footprint MXHSPCB-6.25U-SMDRGB (pad centres in mm)
Keyboard switch package!
smd 1 x 0.75 bottom: B- 2.1,-5.225; G- -2.1,-5.225; LED+ 2.1,-3.775; R- -2.1,-3.775
smd 2.55 x 2.5: MX1 7.36,2.54; MX2 -6.09,5.08
hole 4 at 0,0
hole 1.7 at 5.08,0
hole 1.7 at -5.08,0
hole 3 at 3.81,2.54
hole 3 at -2.54,5.08
hole 2.4 at 0,-4.5
hole 3.05 at -50,7
hole 3.05 at 50,7
hole 4 at -50,-8.24
hole 4 at 50,-8.24

## Footprint MXHSPCB-6.25U-SMDRGB-FLIPPED (pad centres in mm)
Keyboard switch package!
smd 1 x 0.75 bottom: B- 2.1,-5.225; G- -2.1,-5.225; LED+ 2.1,-3.775; R- -2.1,-3.775
smd 2.55 x 2.5: MX1 7.36,2.54; MX2 -6.09,5.08
hole 4 at 0,0
hole 1.7 at 5.08,0
hole 1.7 at -5.08,0
hole 3 at 3.81,2.54
hole 3 at -2.54,5.08
hole 2.4 at 0,-4.5
hole 3.05 at -50,-7
hole 3.05 at 50,-7
hole 4 at -50,8.24
hole 4 at 50,8.24

## Footprint MXHSPCB-6.25U-SMDRGB-FLIPPED-ROTATED (pad centres in mm)
Keyboard switch package!
smd 1 x 0.75 bottom: B- 2.1,-5.225; G- -2.1,-5.225; LED+ 2.1,-3.775; R- -2.1,-3.775
smd 2.55 x 2.5: MX1 7.36,2.54; MX2 -6.09,5.08
hole 4 at 0,0
hole 1.7 at 5.08,0
hole 1.7 at -5.08,0
hole 3 at 3.81,2.54
hole 3 at -2.54,5.08
hole 2.4 at 0,-4.5
hole 3.05 at -7,-50
hole 3.05 at -7,50
hole 4 at 8.24,-50
hole 4 at 8.24,50

## Footprint MXHSPCB-6.25U-SMDRGB-ROTATED (pad centres in mm)
Keyboard switch package!
smd 1 x 0.75 bottom: B- 2.1,-5.225; G- -2.1,-5.225; LED+ 2.1,-3.775; R- -2.1,-3.775
smd 2.55 x 2.5: MX1 7.36,2.54; MX2 -6.09,5.08
hole 4 at 0,0
hole 1.7 at 5.08,0
hole 1.7 at -5.08,0
hole 3 at 3.81,2.54
hole 3 at -2.54,5.08
hole 2.4 at 0,-4.5
hole 3.05 at 7,-50
hole 3.05 at 7,50
hole 4 at -8.24,-50
hole 4 at -8.24,50

## Footprint MXHSPCB-6.5U-SMDRGB (pad centres in mm)
Keyboard switch package!
smd 1 x 0.75 bottom: B- 2.1,-5.225; G- -2.1,-5.225; LED+ 2.1,-3.775; R- -2.1,-3.775
smd 2.55 x 2.5: MX1 7.36,2.54; MX2 -6.09,5.08
hole 4 at 0,0
hole 1.7 at 5.08,0
hole 1.7 at -5.08,0
hole 3 at 3.81,2.54
hole 3 at -2.54,5.08
hole 2.4 at 0,-4.5
hole 3.05 at -52.5,7
hole 3.05 at 52.5,7
hole 4 at -52.5,-8.24
hole 4 at 52.5,-8.24

## Footprint MXHSPCB-6.5U-SMDRGB-FLIPPED (pad centres in mm)
Keyboard switch package!
smd 1 x 0.75 bottom: B- 2.1,-5.225; G- -2.1,-5.225; LED+ 2.1,-3.775; R- -2.1,-3.775
smd 2.55 x 2.5: MX1 7.36,2.54; MX2 -6.09,5.08
hole 4 at 0,0
hole 1.7 at 5.08,0
hole 1.7 at -5.08,0
hole 3 at 3.81,2.54
hole 3 at -2.54,5.08
hole 2.4 at 0,-4.5
hole 3.05 at -52.5,-7
hole 3.05 at 52.5,-7
hole 4 at -52.5,8.24
hole 4 at 52.5,8.24

## Footprint MXHSPCB-6.5U-SMDRGB-FLIPPED-ROTATED (pad centres in mm)
Keyboard switch package!
smd 1 x 0.75 bottom: B- 2.1,-5.225; G- -2.1,-5.225; LED+ 2.1,-3.775; R- -2.1,-3.775
smd 2.55 x 2.5: MX1 7.36,2.54; MX2 -6.09,5.08
hole 4 at 0,0
hole 1.7 at 5.08,0
hole 1.7 at -5.08,0
hole 3 at 3.81,2.54
hole 3 at -2.54,5.08
hole 2.4 at 0,-4.5
hole 3.05 at -7,-52.5
hole 3.05 at -7,52.5
hole 4 at 8.24,-52.5
hole 4 at 8.24,52.5

## Footprint MXHSPCB-6.5U-SMDRGB-ROTATED (pad centres in mm)
Keyboard switch package!
smd 1 x 0.75 bottom: B- 2.1,-5.225; G- -2.1,-5.225; LED+ 2.1,-3.775; R- -2.1,-3.775
smd 2.55 x 2.5: MX1 7.36,2.54; MX2 -6.09,5.08
hole 4 at 0,0
hole 1.7 at 5.08,0
hole 1.7 at -5.08,0
hole 3 at 3.81,2.54
hole 3 at -2.54,5.08
hole 2.4 at 0,-4.5
hole 3.05 at 7,-52.5
hole 3.05 at 7,52.5
hole 4 at -8.24,-52.5
hole 4 at -8.24,52.5

## Footprint MXHSPCB-7U-SMDRGB (pad centres in mm)
Keyboard switch package!
smd 1 x 0.75 bottom: B- 2.1,-5.225; G- -2.1,-5.225; LED+ 2.1,-3.775; R- -2.1,-3.775
smd 2.55 x 2.5: MX1 7.36,2.54; MX2 -6.09,5.08
hole 4 at 0,0
hole 1.7 at 5.08,0
hole 1.7 at -5.08,0
hole 3 at 3.81,2.54
hole 3 at -2.54,5.08
hole 2.4 at 0,-4.5
hole 3.05 at -57.15,7
hole 3.05 at 57.15,7
hole 4 at -57.15,-8.24
hole 4 at 57.15,-8.24

## Footprint MXHSPCB-7U-SMDRGB-FLIPPED (pad centres in mm)
Keyboard switch package!
smd 1 x 0.75 bottom: B- 2.1,-5.225; G- -2.1,-5.225; LED+ 2.1,-3.775; R- -2.1,-3.775
smd 2.55 x 2.5: MX1 7.36,2.54; MX2 -6.09,5.08
hole 4 at 0,0
hole 1.7 at 5.08,0
hole 1.7 at -5.08,0
hole 3 at 3.81,2.54
hole 3 at -2.54,5.08
hole 2.4 at 0,-4.5
hole 3.05 at -57.15,-7
hole 3.05 at 57.15,-7
hole 4 at -57.15,8.24
hole 4 at 57.15,8.24

## Footprint MXHSPCB-7U-SMDRGB-FLIPPED-ROTATED (pad centres in mm)
Keyboard switch package!
smd 1 x 0.75 bottom: B- 2.1,-5.225; G- -2.1,-5.225; LED+ 2.1,-3.775; R- -2.1,-3.775
smd 2.55 x 2.5: MX1 7.36,2.54; MX2 -6.09,5.08
hole 4 at 0,0
hole 1.7 at 5.08,0
hole 1.7 at -5.08,0
hole 3 at 3.81,2.54
hole 3 at -2.54,5.08
hole 2.4 at 0,-4.5
hole 3.05 at -7,-57.15
hole 3.05 at -7,57.15
hole 4 at 8.24,-57.15
hole 4 at 8.24,57.15

## Footprint MXHSPCB-7U-SMDRGB-ROTATED (pad centres in mm)
Keyboard switch package!
smd 1 x 0.75 bottom: B- 2.1,-5.225; G- -2.1,-5.225; LED+ 2.1,-3.775; R- -2.1,-3.775
smd 2.55 x 2.5: MX1 7.36,2.54; MX2 -6.09,5.08
hole 4 at 0,0
hole 1.7 at 5.08,0
hole 1.7 at -5.08,0
hole 3 at 3.81,2.54
hole 3 at -2.54,5.08
hole 2.4 at 0,-4.5
hole 3.05 at 7,-57.15
hole 3.05 at 7,57.15
hole 4 at -8.24,-57.15
hole 4 at -8.24,57.15